# Altium schematic symbol library Global Library.SchLib: 120 symbols (part 1 of 2)
Pins are listed as number, name and electrical type; pins without a type are passive.

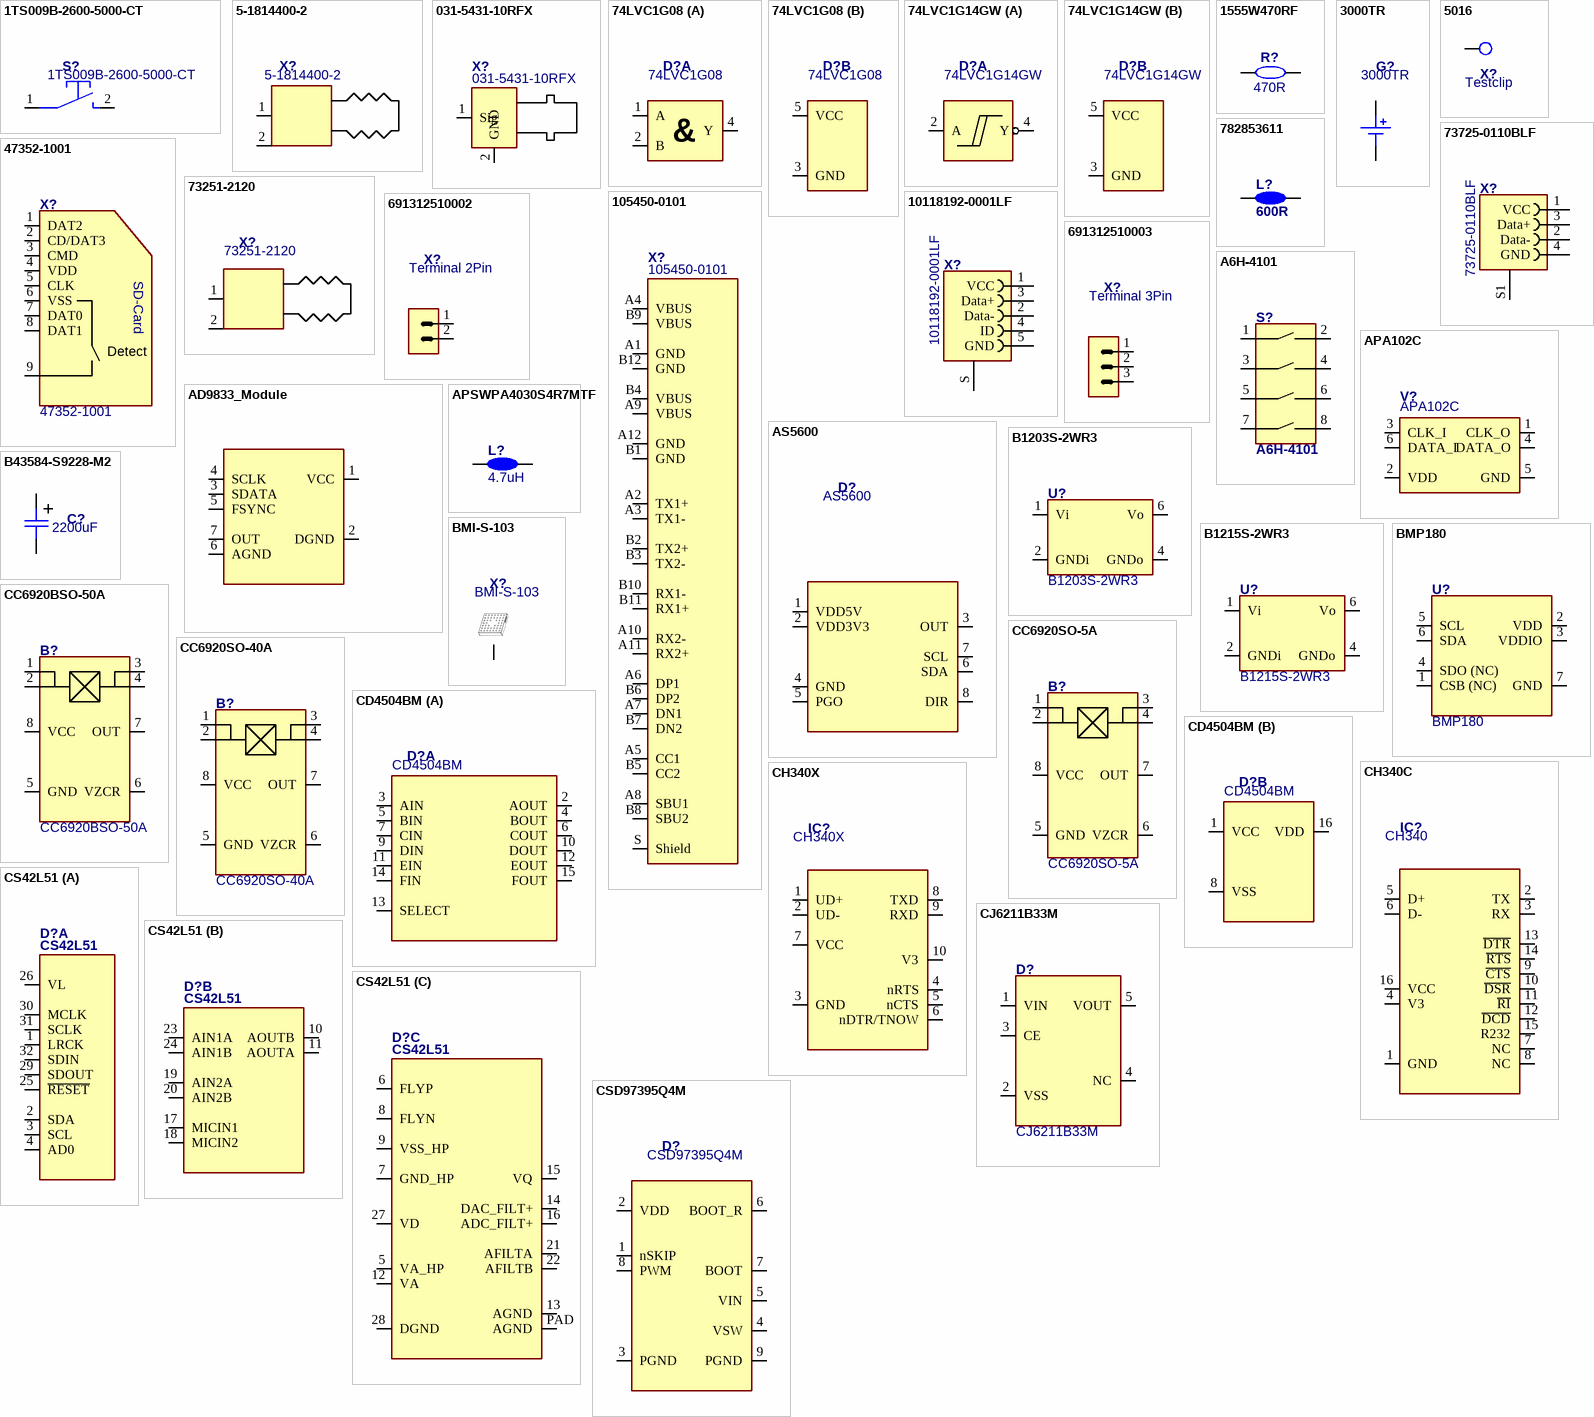
[diagram p0: symbols 1TS009B-2600-5000-CT to CSD97395Q4M]

## 1TS009B-2600-5000-CT
designator S?
Button Tactile 6x6mm C255817; Part_validated: No; Manufacturer: HYP; GPV_Number: xxxx.xxxx; MNL_Number: xxxxxxxx; Value: 1TS009B-2600-5000-CT; Footprint_validated: No; PartStatus: New; System: -; ClassName: Surface_Assy; Case/Package: 6x6; Technology: SMT; Manufacturer Part Number: 1TS009B-2600-5000-CT
footprint 1TS009B-2600-5000-CT (Button Tactile 6x6)
pins: 1, 2

## 5-1814400-2
designator X?
CONN RF SMA; Part_validated: No; Manufacturer: TE Connectivity; GPV_Number: xxxx.xxxx; System: Connector; MNL_Number: xxxxxxxx; Value: 5-1814400-2; Footprint_validated: No; PartStatus: New; ClassName: Through-Hole_Assy; Case/Package: SMA; Technology: THT; Manufacturer Part Number: 5-1814400-2
footprint 5-1814400-2 (SMA Connector)
pins: 1, 2

## 031-5431-10RFX
designator X?
CONN BNC RF 50Ohm; Part_validated: No; Manufacturer: Amphenol; GPV_Number: xxxx.xxxx; System: Connector; MNL_Number: xxxxxxxx; Value: 031-5431-10RFX; Footprint_validated: No; PartStatus: New; ClassName: Through-Hole_Assy; Case/Package: BNC; Technology: THT; Manufacturer Part Number: 031-5431-10RFX
footprint 031-5431-10RFX (CONN BNC)
pins: 1 Sig, 2 GND

## 74LVC1G08
designator D?
Logic AND Gate; Part_validated: No; GPV_Number: xxxx.xxxx; MNL_Number: xxxxxxxx; Value: 74LVC1G08; Footprint_validated: No; PartStatus: New; System: -; ClassName: Surface_Assy; Case/Package: SOT323; Technology: SMT; Manufacturer: *; Manufacturer Part Number: 74LVC1G08
footprint SOT23-5_N_RF (SOT23, 5-Leads, Body 2.90x2.70mm, Pitch 0.95mm, IPC Medium Density)
part A pins: 1 A, 2 B, 4 Y
part B pins: 3 GND, 5 VCC
part A text: &

## 74LVC1G14GW
designator D?
IC LOGIC Inverting Schmitt Trigger 1.65V-5.5V; Part_validated: No; Manufacturer: Nexperia; GPV_Number: xxxx.xxxx; MNL_Number: xxxxxxxx; Value: 74LVC1G14GW; Footprint_validated: No; PartStatus: New; System: -; ClassName: Surface_Assy; Case/Package: SOT353-5; Technology: SMT; Manufacturer Part Number: 74LVC1G14GW
footprint SOT323-5_N_RF (SOT323, 5-Leads, Body 2.05x2.13mm, Pitch 0.65mm, IPC Medium Density)
part A pins: 2 A, 4 Y
part B pins: 3 GND, 5 VCC

## 1555W470RF
designator R?, comment 470R
RES 470R 5W 1% ±300ppm/°C Axial; Part_validated: No; Manufacturer: RND; Manufacturer Part Number: 1555W470RF; GPV_Number: xxxx.xxxx; MNL_Number: xxxxxxxx; Value: 470R; Footprint_validated: No; PartStatus: New; System: -; ClassName: Surface_Assy; Case/Package: Axial; Technology: SMT; Supplier 1: Distrelec; Supplier Part Number 1: 30165929
footprint 1555W470RF
pins: 1, 2

## 3000TR
designator G?
CONN Battery Holder Lithium 1216, 1220, 1225; Part_validated: No; Manufacturer: Keystone Electronics; Value: 3000TR; Footprint_validated: No; PartStatus: New; System: -; ClassName: Surface_Assy; Case/Package: Battery Clip; Technology: SMT; Manufacturer Part Number: 3000TR; Supplier 1: Digi-Key; Supplier Part Number 1: 36-3000CT-ND
footprint X_BAT_1216,1220,1225_N_RF (Battery Holder 1216, 1220, 1225)
pins: 1 (power), 2 (power)

## 5016
designator X?, comment Testclip
CONN Clip Testpoint Hook; Part_validated: No; Manufacturer: Keystone; Manufacturer Part Number: 5016; GPV_Number: xxxx.xxxx; System: Connector; MNL_Number: xxxxxxxx; Value: Testclip; Footprint_validated: No; PartStatus: New; ClassName: Testpoint; Case/Package: 5016; Technology: SMT
footprint 5016_Keystone (Probe Clip)
pins: 1

## 47352-1001
designator X?
uSD Holder Push-Push Molex 47352-1001; Part_validated: No; GPV_Number: xxxx.xxxx; System: Connector; MNL_Number: xxxxxxxx; Value: 47352-1001; Footprint_validated: No; PartStatus: New; ClassName: Surface_Assy; Case/Package: 0201 | 0402 | 0603 | 0805 | 1206 | SO8 | SO16 |; Technology: STM; Manufacturer: 47352-1001; Manufacturer Part Number: Molex
footprint X_0140X0142_47352-1001 (uSD Card Slot Molex)
pins: 1 DAT2, 2 CD/DAT3, 3 CMD, 4 VDD, 5 CLK, 6 VSS, 7 DAT0, 8 DAT1, 9
text: SD-Card; Detect

## 73251-2120
designator X?
CONN RF SMA; Part_validated: No; Manufacturer: MOLEX; GPV_Number: xxxx.xxxx; System: Connector; MNL_Number: xxxxxxxx; Value: 73251-2120; Footprint_validated: No; PartStatus: New; ClassName: Through-Hole_Assy; Case/Package: SMA; Technology: THT; Manufacturer Part Number: 73251-2120
footprint 73251-2120 (SMA Connector)
pins: 1, 2

## 73725-0110BLF
designator X?
CONN RCPT USB2.0 TYPEA 4POS R/A; Part_validated: Yes; Manufacturer: Amphenol FCI; GPV_Number: xxxx.xxxx; System: Connector; MNL_Number: xxxxxxxx; Value: 73725-0110BLF; Footprint_validated: Yes; PartStatus: New; ClassName: Through-Hole_Assy; Case/Package: -; Technology: SMT; Supplier 1: Digi-Key; Supplier Part Number 1: 609-1041-ND; Manufacturer Part Number: 73725-0110BLF; ComponentLink1URL: https://datasheet.ciiva.com/1099/73725-1099184.pdf?src-supplier=Element14; ComponentLink1Description: https://datasheet.ciiva.com/1099/73725-1099184.pdf?src-supplier=Element14; ComponentLink2URL: https://datasheet.ciiva.com/4598/73725-222585-4598842.pdf?src-supplier=Mouser; ComponentLink2Description: https://datasheet.ciiva.com/4598/73725-222585-4598842.pdf?src-supplier=Mouser; ComponentLink3URL: https://datasheet.ciiva.com/1099/73725-1099185.pdf?src-supplier=Element14; ComponentLink3Description: https://datasheet.ciiva.com/1099/73725-1099185.pdf?src-supplier=Element14; ComponentLink4URL: https://datasheet.ciiva.com/3094/73725-3094435.pdf?src-supplier=Avnet; ComponentLink4Description: https://datasheet.ciiva.com/3094/73725-3094435.pdf?src-supplier=Avnet; ComponentLink5URL: https://datasheet.ciiva.com/851/73725-851209.pdf?src-supplier=Digi-Key; ComponentLink5Description: https://datasheet.ciiva.com/851/73725-851209.pdf?src-supplier=Digi-Key
footprint X-0197x0051_A_F04_P0200_FCI_USB-A_73725-0110BLF - duplicate (TE-USB-A, Female. 180°_0-5787834-2)
pins: 1 VCC, 2 Data-, 3 Data+, 4 GND, S1 S

## 105450-0101
designator X?
CONN USB-C 16pin; Part_validated: No; Manufacturer: Molex; GPV_Number: xxxx.xxxx; System: Connector; MNL_Number: xxxxxxxx; Value: 105450-0101; Footprint_validated: No; PartStatus: New; ClassName: Through-Hole_Assy; Case/Package: USB-C; Technology: SMT; Manufacturer Part Number: 105450-0101
footprint 105450-0101 (USB-C Connector)
pins: A1 GND, A2 TX1+, A3 TX1-, A4 VBUS, A5 CC1, A6 DP1, A7 DN1, A8 SBU1, A9 VBUS, A10 RX2-, A11 RX2+, A12 GND, B1 GND, B2 TX2+, B3 TX2-, B4 VBUS, B5 CC2, B6 DP2, B7 DN2, B8 SBU2, B9 VBUS, B10 RX1-, B11 RX1+, B12 GND, S Shield

## 10118192-0001LF
designator X?
CONN RCPT USB2.0 Type MicroB 5Pos Flat; Part_validated: No; Manufacturer: Amphenol; System: Connector; GPV_Number: *; Value: 10118192-0001LF; Footprint_validated: No; PartStatus: New; ClassName: Surface_Assy; Case/Package: USB-microB; Technology: SMT; Manufacturer Part Number: 10118192-0001LF; Supplier 1: Digi-Key; Supplier Part Number 1: 609-4613-2-ND
footprint X-0079X0055_A_M5_Amphenol_10118192-0001LF
pins: 1 VCC, 2 Data-, 3 Data+, 4 ID, 5 GND, S

## 782853611
designator L?, comment 600R
Ferrite Bead 600Ohm 2A 0805; Part_validated: Yes | No; Manufacturer: Würth; Manufacturer Part Number: 782853611; GPV_Number: xxxx.xxxx; System: Connector; MNL_Number: xxxxxxxx; Footprint_validated: Yes | No; PartStatus: New | Draft | Release; ClassName: Surface_Assy | Testpoint | Through-Hole_Assy | NetTie | Symbol | Mechanical; Case/Package: 0201 | 0402 | 0603 | 0805 | 1206 | SO8 | SO16 |; Technology: SMT | THT | SMT-BTC; Value: 600R
footprint L_0805_N_RF
pins: 1, 2

## 691312510002
designator X?, comment Terminal 2Pin
CONN Terminal Block 5.08mm 2Pin; Part_validated: No; Manufacturer: Würth; Manufacturer Part Number: 691312510002; GPV_Number: xxxx.xxxx; System: Connector; MNL_Number: xxxxxxxx; Value: Terminal 2Pin; Footprint_validated: No; PartStatus: New; ClassName: Through-Hole_Assy; Case/Package: 5.08; Technology: THT
footprint Terminal Block 2Pin
pins: 1, 2 1

## 691312510003
designator X?, comment Terminal 3Pin
CONN Terminal Block 5.08mm 3Pin; Part_validated: No; Manufacturer: Würth; Manufacturer Part Number: 691312510003; GPV_Number: xxxx.xxxx; System: Connector; MNL_Number: xxxxxxxx; Value: Terminal 3Pin; Footprint_validated: No; PartStatus: New; ClassName: Through-Hole_Assy; Case/Package: 5.08; Technology: THT
footprint Terminal Block 3Pin
pins: 1, 2, 3

## A6H-4101
designator S?
DIP Switch; Part_validated: False; GPV_Number: xxxx.xxxx; MNL_Number: xxxxxxxx; Value: A6H-4101; Footprint_validated: False; PartStatus: New; System: -; ClassName: Surface_Assy; Supplier 1: *; Supplier Part Number 1: *; Manufacturer: *; Manufacturer Part Number: *
footprint DIP-Switch 4P (DIP Switch)
pins: 1, 2, 3, 4, 5, 6, 7, 8

## AD9833_Module
designator IC?
Module DDS Signal Generator, 0.1Hz - 1MHz; Part_validated: Yes | No; GPV_Number: xxxx.xxxx; System: Connector; MNL_Number: xxxxxxxx; Value: AD9833_Module; Footprint_validated: Yes | No; PartStatus: New | Draft | Release; ClassName: Surface_Assy | Testpoint | Through-Hole_Assy | NetTie | Symbol | Mechanical; Case/Package: 0201 | 0402 | 0603 | 0805 | 1206 | SO8 | SO16 |; Technology: SMT | THT | SMT-BTC; Manufacturer: *; Manufacturer Part Number: *
footprint AD9833_Module
pins: 1 VCC, 2 DGND, 3 SDATA, 4 SCLK, 5 FSYNC, 6 AGND, 7 OUT

## APA102C
designator V?
RGB LED SPI Interface; Part_validated: No; Manufacturer: APA Electronic CO; Manufacturer Part Number: APA-102-2020-256-8A; GPV_Number: xxxx.xxxx; MNL_Number: xxxxxxxx; Value: APA102C; Footprint_validated: No; PartStatus: New; System: -; ClassName: Surface_Assy; Case/Package: 2020; Technology: SMT
footprint V_2020_P6_N_RF (APA102C LED)
pins: 1 CLK_O, 2 VDD, 3 CLK_I, 4 DATA_O, 5 GND, 6 DATA_I

## APSWPA4030S4R7MTF
designator L?, comment 4.7uH
IND 4.7uH 2.9A 4x4mm; Part_validated: No; Manufacturer: APV; Manufacturer Part Number: APSWPA4030S4R7MTF; GPV_Number: xxxx.xxxx; MNL_Number: xxxxxxxx; Value: 4.7uH; Footprint_validated: No; PartStatus: New; System: -; ClassName: Surface_Assy; Case/Package: 4x4; Technology: SMT
footprint L-0400X0400_N_RF (Chip Inductor, 2-Leads, Body 4.00x4.00mm, IPC Medium Density)
pins: 1, 2

## AS5600
designator D?
IC Sensor Rotation Magnet 12bit; Part_validated: No; Manufacturer: AMS; GPV_Number: xxxx.xxxx; MNL_Number: xxxxxxxx; Value: AS5600; Footprint_validated: No; PartStatus: New; System: -; ClassName: Surface_Assy; Case/Package: SO-8; Technology: SMT; Manufacturer Part Number: AS5600
footprint SOIC8_N_RF (SOIC, 8-Leads, Body 4.90x3.90mm, Pitch 1.27mm, IPC Medium Density)
pins: 1 VDD5V, 2 VDD3V3, 3 OUT, 4 GND, 5 PGO, 6 SDA, 7 SCL, 8 DIR

## B1203S-2WR3
designator U?
IC DC/DC Converter 12VIN 3.3VOUT 2W; Part_validated: No; Manufacturer: Hi-Link; MNL_Number: xxxxxxxx; GPV_Number: -; Value: B1203S-2WR3; Footprint_validated: No; PartStatus: New; System: -; ClassName: Through-Hole_Assy; Case/Package: 7-SIP; Technology: THT; Manufacturer Part Number: B1203S-2WR3; Supplier 1: Farnell; Supplier Part Number 1: 1860943
footprint SIP7 wide (7 PIN SIP Package)
pins: 1 Vi, 2 GNDi, 4 GNDo, 6 Vo

## B1215S-2WR3
designator U?
IC DC/DC Converter 12VIN 15VOUT 2W; Part_validated: No; Manufacturer: Hi-Link; MNL_Number: xxxxxxxx; GPV_Number: -; Value: B1215S-2WR3; Footprint_validated: No; PartStatus: New; System: -; ClassName: Through-Hole_Assy; Case/Package: 7-SIP; Technology: THT; Manufacturer Part Number: B1215S-2WR3; Supplier 1: Farnell; Supplier Part Number 1: 1860943
footprint SIP7 (7 PIN SIP Package)
pins: 1 Vi, 2 GNDi, 4 GNDo, 6 Vo

## B43584-S9228-M2
designator C?, comment 2200uF
CAP Alu 400V 2200uF; Part_validated: No; Manufacturer: Epcos; Manufacturer Part Number: B43584-S9228-M2; GPV_Number: xxxx.xxxx; MNL_Number: xxxxxxxx; Value: 2200uF; Footprint_validated: No; PartStatus: New; System: -; ClassName: Through-Hole_Assy; Case/Package: screw terminal; Technology: THT
footprint B43584-S9228-M2 (CAP Alu 400V 2200uF)
pins: 1, 2

## BMI-S-103
designator X?
EMI Shield 26.2mm x 26.2mm, soldered; Part_validated: Yes | No; Manufacturer: Laird; GPV_Number: xxxx.xxxx; System: Connector; MNL_Number: xxxxxxxx; Value: BMI-S-103; Footprint_validated: Yes | No; PartStatus: New | Draft | Release; ClassName: Surface_Assy | Testpoint | Through-Hole_Assy | NetTie | Symbol | Mechanical; Case/Package: 0201 | 0402 | 0603 | 0805 | 1206 | SO8 | SO16 |; Technology: SMT | THT | SMT-BTC; Manufacturer Part Number: BMI-S-103
footprint BMI-S-103 (EMI Shield)
pins: S

## BMP180
designator U?
IC SENSOR Pressure & Temperature; Part_validated: No; Manufacturer: Bosch; GPV_Number: xxxx.xxxx; MNL_Number: xxxxxxxx; Value: BMP180; Footprint_validated: No; PartStatus: New; System: -; ClassName: Surface_Assy; Case/Package: LGA-7; Technology: SMT; Manufacturer Part Number: BMP180
footprint LGA-7
pins: 1 CSB (NC), 2 VDD, 3 VDDIO, 4 SDO (NC), 5 SCL, 6 SDA, 7 GND

## CC6920BSO-50A
designator B?
IC Current sensor ±50A 3.3V; Part_validated: No; Manufacturer: Cross chip; GPV_Number: xxxx.xxxx; MNL_Number: xxxxxxxx; Value: CC6920BSO-50A; Footprint_validated: No; PartStatus: New; System: -; ClassName: Surface_Assy; Case/Package: SO8; Technology: SMT; Manufacturer Part Number: CC6920BSO-50A
footprint SOIC8_N_RF (SOIC, 8-Leads, Body 4.90x3.90mm, Pitch 1.27mm, IPC Medium Density)
pins: 1 IP+, 2 IP+, 3 IP-, 4 IP-, 5 GND, 6 VZCR, 7 OUT, 8 VCC

## CC6920SO-5A
designator B?
IC Current sensor ±5A 5V; Part_validated: No; Manufacturer: Cross chip; GPV_Number: xxxx.xxxx; MNL_Number: xxxxxxxx; Value: CC6920SO-5A; Footprint_validated: No; PartStatus: New; System: -; ClassName: Surface_Assy; Case/Package: SO8; Technology: SMT; Manufacturer Part Number: CC6920SO-5A
footprint SOIC8_N_RF (SOIC, 8-Leads, Body 4.90x3.90mm, Pitch 1.27mm, IPC Medium Density)
pins: 1 IP+, 2 IP+, 3 IP-, 4 IP-, 5 GND, 6 VZCR, 7 OUT, 8 VCC

## CC6920SO-40A
designator B?
IC Current sensor ±40A 5V; Part_validated: No; Manufacturer: Cross chip; GPV_Number: xxxx.xxxx; MNL_Number: xxxxxxxx; Value: CC6920SO-40A; Footprint_validated: No; PartStatus: New; System: -; ClassName: Surface_Assy; Case/Package: SO8; Technology: SMT; Manufacturer Part Number: CC6920SO-40A
footprint SOIC8_N_RF (SOIC, 8-Leads, Body 4.90x3.90mm, Pitch 1.27mm, IPC Medium Density)
pins: 1 IP+, 2 IP+, 3 IP-, 4 IP-, 5 GND, 6 VZCR, 7 OUT, 8 VCC

## CD4504BM
designator D?
IC LOGIC LEVEL SHIFTER 6CH; Part_validated: Yes | No; Manufacturer: TI; GPV_Number: xxxx.xxxx; System: Connector; MNL_Number: xxxxxxxx; Value: CD4504BM; Footprint_validated: Yes | No; PartStatus: New | Draft | Release; ClassName: Surface_Assy | Testpoint | Through-Hole_Assy | NetTie | Symbol | Mechanical; Case/Package: 0201 | 0402 | 0603 | 0805 | 1206 | SO8 | SO16 |; Technology: SMT | THT | SMT-BTC; Manufacturer Part Number: CD4504BM
footprint SO16-600X175_N_RF (SOIC, 16-Leads, Body 9.90x3.90mm, Pitch 1.27mm, IPC Medium Density)
part A pins: 2 AOUT, 3 AIN, 4 BOUT, 5 BIN, 6 COUT, 7 CIN, 9 DIN, 10 DOUT, 11 EIN, 12 EOUT, 13 SELECT, 14 FIN, 15 FOUT
part B pins: 1 VCC, 8 VSS, 16 VDD

## CH340C
designator IC?, comment CH340
IC Converter USB UART; Part_validated: No; Manufacturer: WCN; Manufacturer Part Number: CH340C; GPV_Number: xxxx.xxxx; MNL_Number: xxxxxxxx; Value: CH340; Footprint_validated: No; PartStatus: New; System: -; ClassName: Surface_Assy; Case/Package: SO16; Technology: SMT
footprint SOIC16_N_RF (SOIC, 16-Leads, Body 9.90x3.90mm, Pitch 1.27mm, IPC Medium Density)
pins: 1 GND, 2 TX, 3 RX, 4 V3, 5 D+, 6 D-, 7 NC, 8 NC, 9 ~{CTS}, 10 ~{DSR}, 11 ~{RI}, 12 ~{DCD}, 13 ~{DTR}, 14 ~{RTS}, 15 R232, 16 VCC

## CH340X
designator IC?
IC Converter USB UART; Part_validated: No; Manufacturer: WCN; GPV_Number: xxxx.xxxx; MNL_Number: xxxxxxxx; Value: CH340X; Footprint_validated: No; PartStatus: New; System: -; ClassName: Surface_Assy; Case/Package: MSOP-10; Technology: SMT; Manufacturer Part Number: CH340X
footprint MSOP-10_N_RF (TSSOP, 10-Leads, Body 3.00x3.00mm, Pitch 0.50mm, IPC Medium Density)
pins: 1 UD+, 2 UD-, 3 GND, 4 nRTS, 5 nCTS, 6 nDTR/TNOW, 7 VCC, 8 TXD, 9 RXD, 10 V3

## CJ6211B33M
designator D?
IC REG LDO 3.3V 500mA 55mV@100mA SOT-23-5; Part_validated: No; Manufacturer: Jiangsu Changjing Electronics; GPV_Number: xxxx.xxxx; MNL_Number: xxxxxxxx; Value: CJ6211B33M; Footprint_validated: No; PartStatus: New; System: -; ClassName: Surface_Assy; Case/Package: SOT-23-5; Technology: SMT; Manufacturer Part Number: CJ6211B33M
footprint SOT23-5_N_RF (SOT23, 5-Leads, Body 2.90x2.70mm, Pitch 0.95mm, IPC Medium Density)
pins: 1 VIN, 2 VSS, 3 CE, 4 NC, 5 VOUT

## CS42L51
designator D?
Audio Codec; Part_validated: Yes | No; GPV_Number: xxxx.xxxx; System: Connector; MNL_Number: xxxxxxxx; Value: CS42L51; Footprint_validated: Yes | No; PartStatus: New | Draft | Release; ClassName: Surface_Assy | Testpoint | Through-Hole_Assy | NetTie | Symbol | Mechanical; Case/Package: 0201 | 0402 | 0603 | 0805 | 1206 | SO8 | SO16 |; Technology: SMT | THT | SMT-BTC; Manufacturer: *; Manufacturer Part Number: *
footprint QFN32-N_RF (QFN, 32-Leads, Body 5.00x5.00mm, Pitch 0.50mm, Thermal Pad 3.65x3.65mm, IPC Medium Density)
part A pins: 1 LRCK, 2 SDA, 3 SCL, 4 AD0, 25 ~{RESET}, 26 VL, 29 SDOUT, 30 MCLK, 31 SCLK, 32 SDIN
part B pins: 10 AOUTB, 11 AOUTA, 17 MICIN1, 18 MICIN2, 19 AIN2A, 20 AIN2B, 23 AIN1A, 24 AIN1B
part C pins: 5 VA_HP, 6 FLYP, 7 GND_HP, 8 FLYN, 9 VSS_HP, 12 VA, 13 AGND, 14 DAC_FILT+, 15 VQ, 16 ADC_FILT+, 21 AFILTA, 22 AFILTB, 27 VD, 28 DGND, PAD AGND

## CSD97395Q4M
designator D?
IC DRIVER H-Bridge 25A; Part_validated: No; Manufacturer: TI; GPV_Number: xxxx.xxxx; MNL_Number: xxxxxxxx; Value: CSD97395Q4M; Footprint_validated: No; PartStatus: New; System: -; ClassName: Surface_Assy; Case/Package: SON-16; Technology: SMT; Manufacturer Part Number: CSD97395Q4M
footprint CSD97395Q4M
pins: 1 nSKIP, 2 VDD, 3 PGND, 4 VSW, 5 VIN, 6 BOOT_R, 7 BOOT, 8 PWM, 9 PGND

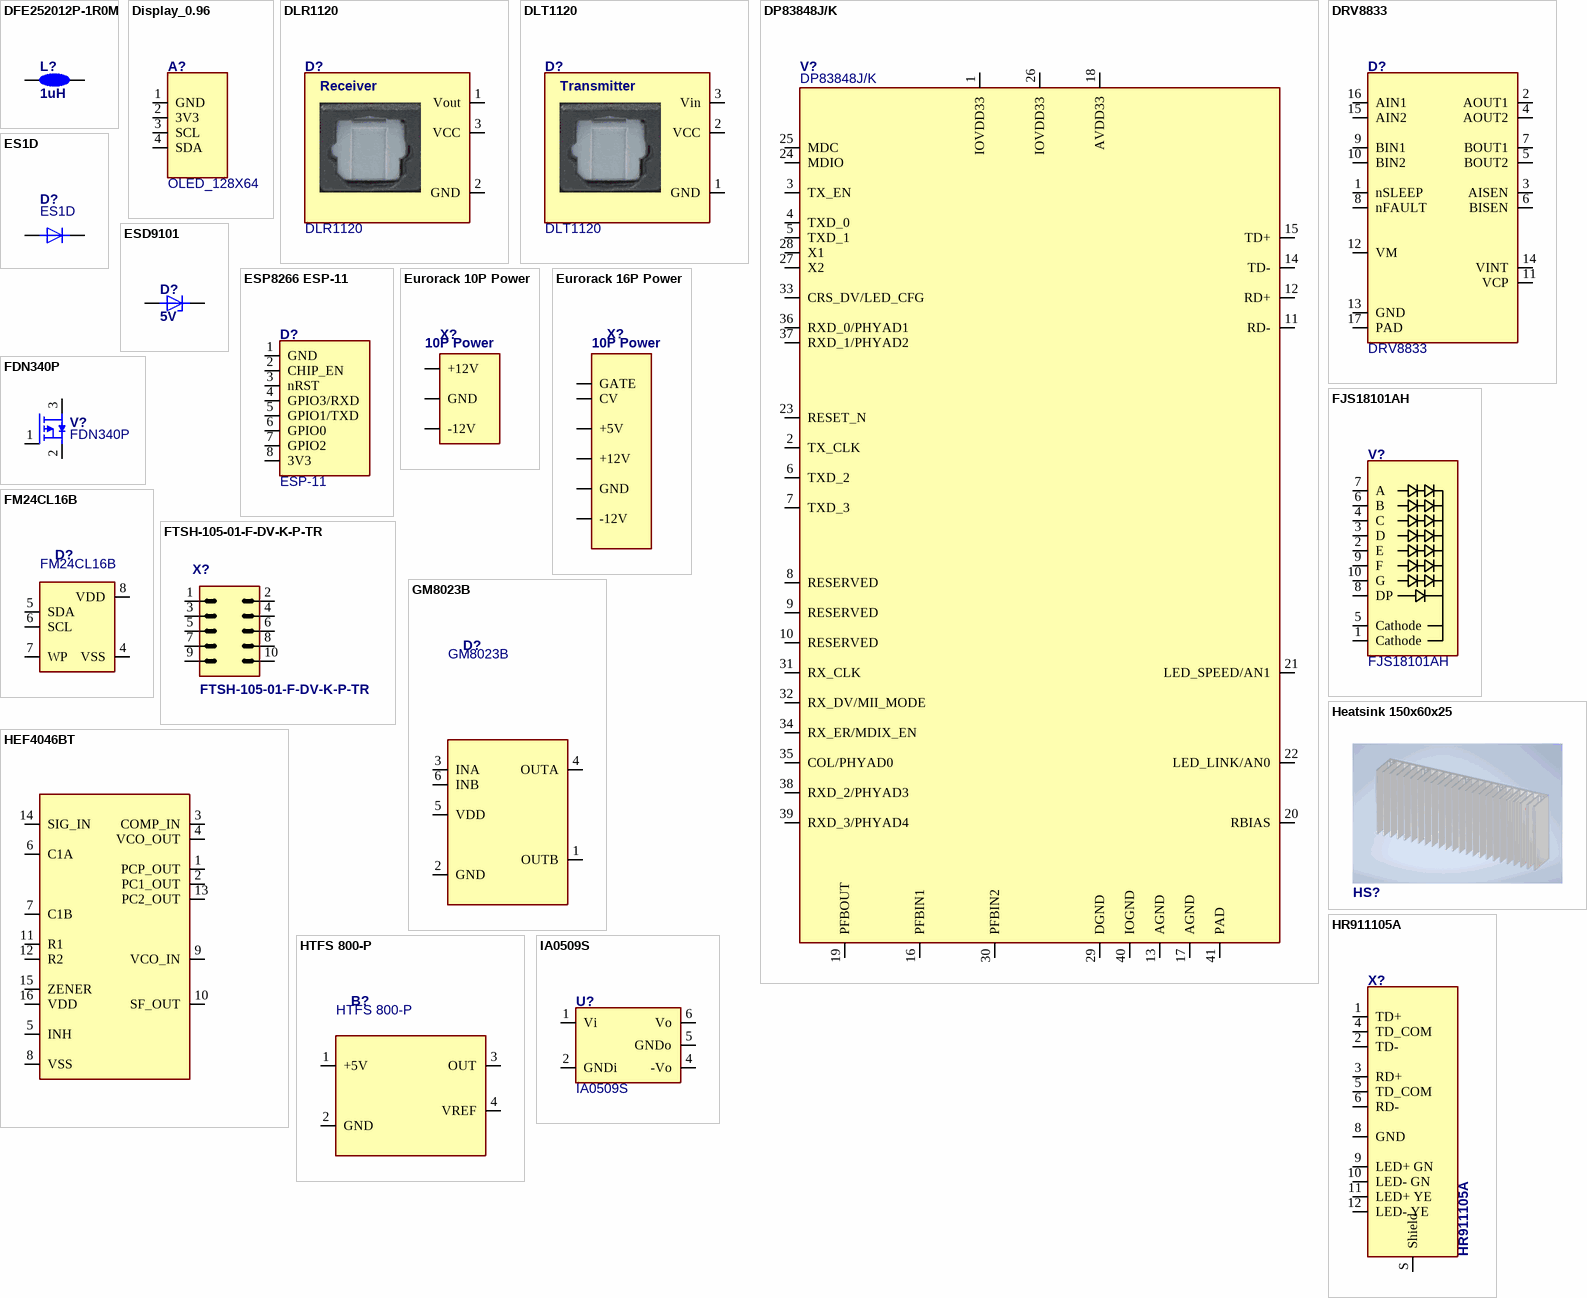
[diagram p1: symbols DFE252012P-1R0M to IA0509S]

## DFE252012P-1R0M
designator L?, comment 1uH
Inductor 1uH 3.2A 20% 0.042Ohm; Part_validated: Yes | No; Manufacturer: Murata; Manufacturer Part Number: DFE252012P-1R0M; GPV_Number: xxxx.xxxx; MNL_Number: xxxxxxxx; Value: 1uH; Footprint_validated: Yes | No; PartStatus: New | Draft | Release; System: -; ClassName: Surface_Assy | Testpoint | Through-Hole_Assy | NetTie | Symbol | Mechanical; Case/Package: 0201 | 0402 | 0603 | 0805 | 1206 | SO8 | SO16 |; Technology: SMT | THT | SMT-BTC
footprint L-0200X0250_N_RF (Chip Inductor, 2-Leads, Body 2.50x2.00mm, IPC Medium Density)
pins: 1, 2

## Display_0.96
designator A?, comment OLED_128X64
OLED Display I2C 128X64 0.96"; Part_validated: No; GPV_Number: xxxx.xxxx; MNL_Number: xxxxxxxx; Value: OLED_128X64; Footprint_validated: No; PartStatus: New; System: -; ClassName: Through-Hole_Assy; Case/Package: 4SIL; Technology: TMT; Manufacturer: *; Manufacturer Part Number: *
footprint OLED_0.96
pins: 1 GND, 2 3V3, 3 SCL, 4 SDA

## DLR1120
designator D?
Optic Receiver Toslink; Part_validated: No; GPV_Number: xxxx.xxxx; MNL_Number: xxxxxxxx; Value: DLR1120; Footprint_validated: No; PartStatus: New; System: -; ClassName: Through-Hole_Assy; Case/Package: -; Technology: SMT; Manufacturer: *; Manufacturer Part Number: DLR1120
footprint DLR1120/DLT1120 (Toslink Receiver/Transmitter)
pins: 1 Vout, 2 GND, 3 VCC
text: Receiver

## DLT1120
designator D?
Optic Transmitter Toslink; Part_validated: No; GPV_Number: xxxx.xxxx; MNL_Number: xxxxxxxx; Value: DLT1120; Footprint_validated: No; PartStatus: New; System: -; ClassName: Through-Hole_Assy; Case/Package: -; Technology: SMT; Manufacturer: *; Manufacturer Part Number: DLT1120
footprint DLR1120/DLT1120 (Toslink Receiver/Transmitter)
pins: 1 GND, 2 VCC, 3 Vin
text: Transmitter

## DP83848J/K
designator V?
IC PHY Eth RMII, 3.3V, 10/100MB/s, >=70˚C; Part_validated: No; Manufacturer: Texas Instruments; Manufacturer Part Number: DP83848JSQ/NOPB; DP83848KSQ/NOPB; GPV_Number: 1501.0140; MNL_Number: xxxxxxxx; Value: DP83848J/K; Footprint_validated: No; PartStatus: New; System: -; ClassName: Surface_Assy; Case/Package: WQFN-40; Technology: SMT; Parameter 1: *; Supplier 1: Mouser; Supplier Part Number 1: 926-DP83848JSQ/NOPB
footprint WQFN40_L_RF (QFN, 40-Leads, Body 6.00x6.00mm, Pitch 0.50mm, Thermal Pad 4.60x4.60mm, IPC High Density)
footprint WQFN40_N_RF (QFN, 40-Leads, Body 6.00x6.00mm, Pitch 0.50mm, Thermal Pad 4.60x4.60mm, IPC Medium Density)
pins: 1 IOVDD33, 2 TX_CLK, 3 TX_EN, 4 TXD_0, 5 TXD_1, 6 TXD_2, 7 TXD_3, 8 RESERVED, 9 RESERVED, 10 RESERVED, 11 RD-, 12 RD+, 13 AGND, 14 TD-, 15 TD+, 16 PFBIN1, 17 AGND, 18 AVDD33, 19 PFBOUT, 20 RBIAS, 21 LED_SPEED/AN1, 22 LED_LINK/AN0, 23 RESET_N, 24 MDIO, 25 MDC, 26 IOVDD33, 27 X2, 28 X1, 29 DGND, 30 PFBIN2, 31 RX_CLK, 32 RX_DV/MII_MODE, 33 CRS_DV/LED_CFG, 34 RX_ER/MDIX_EN, 35 COL/PHYAD0, 36 RXD_0/PHYAD1, 37 RXD_1/PHYAD2, 38 RXD_2/PHYAD3, 39 RXD_3/PHYAD4, 40 IOGND, 41 PAD

## DRV8833
designator D?
IC Driver Dual H-Bridge 1.5A 2.7-10.8V; Part_validated: No; Manufacturer: Texas Instruments; Manufacturer Part Number: DRV8833P; GPV_Number: xxxx.xxxx; MNL_Number: xxxxxxxx; Value: DRV8833; Footprint_validated: No; PartStatus: New; System: -; ClassName: Surface_Assy; Case/Package: TSSOP16; Technology: SMT
footprint TSSOP16-Power_N_RF (TSSOP, 16-Leads, Body 5.00x4.40mm, Pitch 0.65mm, Thermal Pad 2.31x2.46mm, IPC Medium Density)
pins: 1 nSLEEP, 2 AOUT1, 3 AISEN, 4 AOUT2, 5 BOUT2, 6 BISEN, 7 BOUT1, 8 nFAULT, 9 BIN1, 10 BIN2, 11 VCP, 12 VM, 13 GND, 14 VINT, 15 AIN2, 16 AIN1, 17 PAD

## ES1D
designator D?
DIODE Ultrafast 1A; Part_validated: No; Manufacturer: ON Semiconductor; GPV_Number: xxxx.xxxx; MNL_Number: xxxxxxxx; Value: ES1D; Footprint_validated: No; PartStatus: New; System: -; ClassName: Surface_Assy; Case/Package: SMA; Technology: SMT; Manufacturer Part Number: ES1D
footprint sma (Diode Package)
pins: 1, 2

## ESD9101
designator D?, comment 5V
Diode ESD 5V; Part_validated: Yes | No; Manufacturer: Onsemi; Manufacturer Part Number: ESD9101P2T5G; GPV_Number: xxxx.xxxx; MNL_Number: xxxxxxxx; Value: 5V; Footprint_validated: Yes | No; PartStatus: New | Draft | Release; System: -; ClassName: Surface_Assy | Testpoint | Through-Hole_Assy | NetTie | Symbol | Mechanical; Case/Package: 0201 | 0402 | 0603 | 0805 | 1206 | SO8 | SO16 |; Technology: SMT | THT | SMT-BTC
footprint SOD-923_N_RF (SODFL, 2-Leads, Body 0.60x1.00mm, IPC Medium Density)
pins: 1, 2

## ESP8266 ESP-11
designator D?, comment ESP-11
ESP8266 Module; Part_validated: No; Manufacturer: Espressif; GPV_Number: xxxx.xxxx; MNL_Number: xxxxxxxx; Value: ESP-11; Footprint_validated: No; PartStatus: New; System: -; ClassName: Surface_Assy; Case/Package: 0201 | 0402 | 0603 | 0805 | 1206 | SO8 | SO16 |; Technology: SMT; Manufacturer Part Number: ESP-11
footprint ESP-11
pins: 1 GND, 2 CHIP_EN, 3 nRST, 4 GPIO3/RXD, 5 GPIO1/TXD, 6 GPIO0, 7 GPIO2, 8 3V3

## Eurorack 10P Power
designator X?, comment 10P Power
Eurorack Power Connector 10P; Part_validated: No; GPV_Number: xxxx.xxxx; MNL_Number: xxxxxxxx; Value: 10P Power; Footprint_validated: No; PartStatus: New; System: Connector; ClassName: Through-Hole_Assy; Case/Package: 0201 | 0402 | 0603 | 0805 | 1206 | SO8 | SO16 |; Technology: THT; Manufacturer: *; Manufacturer Part Number: *
footprint Eurorack 10P Power
pins: 1 -12V, 2 GND, 3 +12V

## Eurorack 16P Power
designator X?, comment 10P Power
Eurorack Power Connector 16P; Part_validated: Yes | No; GPV_Number: xxxx.xxxx; MNL_Number: xxxxxxxx; Value: 10P Power; Footprint_validated: Yes | No; PartStatus: New | Draft | Release; System: Connector; ClassName: Surface_Assy | Testpoint | Through-Hole_Assy | NetTie | Symbol | Mechanical; Case/Package: 0201 | 0402 | 0603 | 0805 | 1206 | SO8 | SO16 |; Technology: SMT | THT | SMT-BTC; Manufacturer: *; Manufacturer Part Number: *
footprint Eurorack 16P Power
pins: 1 -12V, 2 GND, 3 +12V, 4 +5V, 5 CV, 6 GATE

## FDN340P
designator V?
MOSFET PCH -2A 20V; Part_validated: No; Manufacturer: onsemi; GPV_Number: xxxx.xxxx; MNL_Number: xxxxxxxx; Value: FDN340P; Footprint_validated: No; PartStatus: New; System: -; ClassName: Surface_Assy; Case/Package: SOT-23; Technology: SMT; Manufacturer Part Number: FDN340P
footprint SOT23_N_RF (SOT23, 3-Leads, Body 2.9x1.3mm, Pitch 0.95mm, Lead Span 2.4mm, IPC Medium Density)
pins: 1 G, 2 S, 3 D

## FJS18101AH
designator V?
LED 7-Segment 38mm x 45mm; Part_validated: No; GPV_Number: xxxx.xxxx; MNL_Number: xxxxxxxx; Value: FJS18101AH; Footprint_validated: No; PartStatus: New; System: -; ClassName: Surface_Assy; Case/Package: 7seg; Technology: SMT; Manufacturer: ?; Manufacturer Part Number: FJS18101AH
footprint FJS18101AH
pins: 1 Cathode, 2 E, 3 D, 4 C, 5 Cathode, 6 B, 7 A, 8 DP, 9 F, 10 G

## FM24CL16B
designator D?
IC FRAM 2KB I2C; Part_validated: No; Manufacturer: Cypress; MNL_Number: xxxxxxxx; GPV_Number: -; Value: FM24CL16B; Footprint_validated: No; PartStatus: New; System: -; ClassName: Surface_Assy; Case/Package: SOIC-8; Technology: SMT; Manufacturer Part Number: FM24CL16B
footprint SOIC8_L_RF (SOIC, 8-Leads, Body 4.90x3.90mm, Pitch 1.27mm, IPC High Density)
footprint SOIC8_N_RF (SOIC, 8-Leads, Body 4.90x3.90mm, Pitch 1.27mm, IPC Medium Density)
pins: 4 VSS, 5 SDA, 6 SCL, 7 WP, 8 VDD

## FTSH-105-01-F-DV-K-P-TR
designator X?
CONN 2X5 pin 1.27mm Pitch Samtech; Part_validated: No; System: Connector; GPV_Number: *; Value: FTSH-105-01-F-DV-K-P-TR; Footprint_validated: No; PartStatus: New; ClassName: Surface_Assy; Case/Package: 2x5_Pinheader_1.27; Technology: SMT; Manufacturer: Samtech; Manufacturer Part Number: FTSH-105-01-F-DV-K-P-TR; Supplier 1: Digi-Key; Supplier Part Number 1: SAM13159CT-ND
footprint X-0058X0127_N_RF_FTSH-105-01-F-DV-K-P-TR (2x5 pin connector 1.27mm pitch samtec)
pins: 1, 2 1, 3 1, 4 1, 5 1, 6 1, 7 1, 8 1, 9 1, 10 1

## GM8023B
designator D?
IC H-Bridge Driver 5-42V 800mA; Part_validated: No; Manufacturer: GATEMODE; MNL_Number: xxxxxxxx; Value: GM8023B; Footprint_validated: No; PartStatus: New; System: -; ClassName: Surface_Assy; Case/Package: SOT23-6; Technology: SMT; Manufacturer Part Number: GM8023B
footprint SOT23-6_N_RF (SOT23, 6-Leads, Body 2.90x2.70mm, Pitch 0.95mm, IPC Medium Density)
pins: 1 OUTB, 2 GND, 3 INA, 4 OUTA, 5 VDD, 6 INB

## Heatsink 150x60x25
designator HS?  (value not drawn)
Heatsink 150mm x 60mm x 25mm; Part_validated: No; GPV_Number: xxxx.xxxx; MNL_Number: xxxxxxxx; Value: *; Footprint_validated: No; PartStatus: New; System: -; ClassName: Through-Hole_Assy; Case/Package: -; Technology: THT; Manufacturer: *; Manufacturer Part Number: *
footprint Heatsink 150x60x25

## HEF4046BT
designator D?
IC PLL 3-15V SOIC-16; Part_validated: No; Manufacturer: Nexperia; GPV_Number: xxxx.xxxx; MNL_Number: xxxxxxxx; Value: HEF4046BT; Footprint_validated: No; PartStatus: New; System: -; ClassName: Surface_Assy; Case/Package: SOIC-16; Technology: SMT; Manufacturer Part Number: HEF4046BT
footprint SOIC16_N_RF (SOIC, 16-Leads, Body 9.90x3.90mm, Pitch 1.27mm, IPC Medium Density)
pins: 1 PCP_OUT, 2 PC1_OUT, 3 COMP_IN, 4 VCO_OUT, 5 INH, 6 C1A, 7 C1B, 8 VSS, 9 VCO_IN, 10 SF_OUT, 11 R1, 12 R2, 13 PC2_OUT, 14 SIG_IN, 15 ZENER, 16 VDD

## HR911105A
designator X?
CONN ETHERNET 10/100Base-T integrated magnetics and LEDs; Part_validated: No; Manufacturer: HanRun; System: Connector; MNL_Number: xxxxxxxx; Value: HR911105A; Footprint_validated: No; PartStatus: New; ClassName: Through-Hole_Assy; Technology: THT; Manufacturer Part Number: HR911105A; Supplier 1: LCSC; Supplier Part Number 1: C12074
footprint HR911105A (Connector Ethernet 10/100Base-T)
pins: 1 TD+, 2 TD-, 3 RD+, 4 TD_COM, 5 TD_COM, 6 RD-, 8 GND, 9 LED+ GN, 10 LED- GN, 11 LED+ YE, 12 LED- YE, S Shield

## HTFS 800-P
designator B?
IC Current Sensor ±1200A 5V; Part_validated: No; Manufacturer: LEM; GPV_Number: xxxx.xxxx; MNL_Number: xxxxxxxx; Value: HTFS 800-P; Footprint_validated: No; PartStatus: New; System: -; ClassName: Through-Hole_Assy; Case/Package: -; Technology: THT; Manufacturer Part Number: HTFS 800-P
footprint HTFS 800-P (Current Sensor)
pins: 1 +5V, 2 GND, 3 OUT, 4 VREF

## IA0509S
designator U?
IC DC/DC Converter 5VIN +-9VOUT 1W; Part_validated: No; Manufacturer: XP Power; MNL_Number: xxxxxxxx; GPV_Number: -; Value: IA0509S; Footprint_validated: No; PartStatus: New; System: -; ClassName: Through-Hole_Assy; Case/Package: 7-SIP; Technology: THT; Manufacturer Part Number: IA0509S; Supplier 1: Farnell; Supplier Part Number 1: 1860943
footprint SIP7 (7 PIN SIP Package)
pins: 1 Vi, 2 GNDi, 4 -Vo, 5 GNDo, 6 Vo

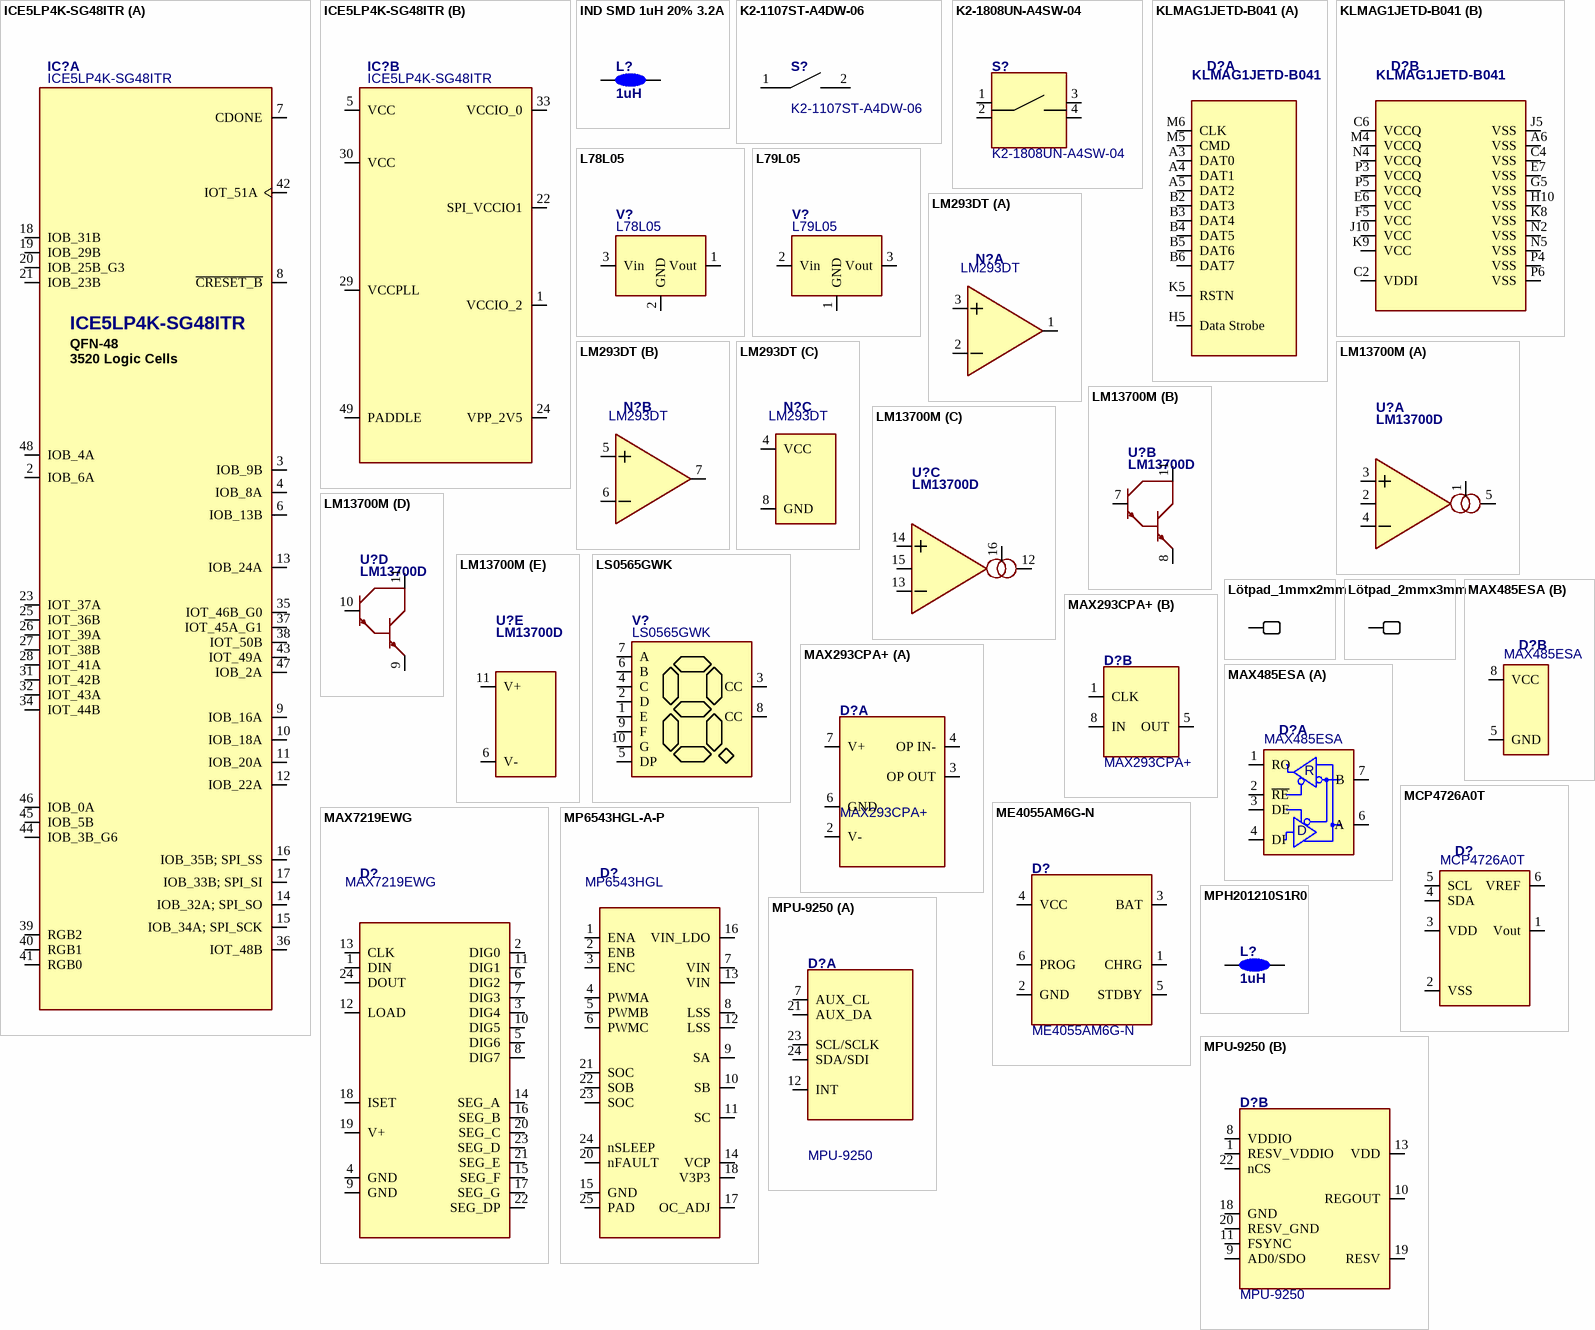
[diagram p2: symbols ICE5LP4K-SG48ITR to MPU-9250]

## ICE5LP4K-SG48ITR
designator IC?
FPGA, ICE40 Ultra, QFN48, 3520 Logic Cells; Part_validated: False; Manufacturer: LATTICE; GPV_Number: xxxx.xxxx; User: epph; Value: ICE5LP4K-SG48ITR; Footprint_validated: False; PartStatus: New; ClassName: Surface_Assy; Manufacturer Part Number: ICE5LP4K-SG48ITR; Supplier 1: Arrow Electronics; Supplier Part Number 1: ICE5LP4K-SG48ITR50
footprint QFN50P700X700X100_HS-49N (QFN, 48-Leads, Body 7.00x7.00mm, Pitch 0.50mm, Thermal Pad 5.35x5.35mm, IPC Medium Density)
part A pins: 2 IOB_6A, 3 IOB_9B, 4 IOB_8A, 6 IOB_13B, 7 CDONE, 8 ~{CRESET_B}, 9 IOB_16A, 10 IOB_18A, 11 IOB_20A, 12 IOB_22A, 13 IOB_24A, 14 IOB_32A; SPI_SO, 15 IOB_34A; SPI_SCK, 16 IOB_35B; SPI_SS, 17 IOB_33B; SPI_SI, 18 IOB_31B, 19 IOB_29B, 20 IOB_25B_G3, 21 IOB_23B, 23 IOT_37A, 25 IOT_36B, 26 IOT_39A, 27 IOT_38B, 28 IOT_41A, 31 IOT_42B, 32 IOT_43A, 34 IOT_44B, 35 IOT_46B_G0, 36 IOT_48B, 37 IOT_45A_G1, 38 IOT_50B, 39 RGB2, 40 RGB1, 41 RGB0, 42 IOT_51A, 43 IOT_49A, 44 IOB_3B_G6, 45 IOB_5B, 46 IOB_0A, 47 IOB_2A, 48 IOB_4A
part B pins: 1 VCCIO_2 (power), 5 VCC (power), 22 SPI_VCCIO1 (power), 24 VPP_2V5 (power), 29 VCCPLL (power), 30 VCC (power), 33 VCCIO_0 (power), 49 PADDLE (power)
part A text: QFN-48 / 3520 Logic Cells

## IND SMD 1uH 20% 3.2A
designator L?, comment 1uH
Inductor 1uH 20% 3.2A; Part_validated: Yes | No; Manufacturer: Murata; Manufacturer Part Number: DFE252012P-1R0M; GPV_Number: xxxx.xxxx; System: Connector; MNL_Number: xxxxxxxx; Value: 1uH; Footprint_validated: Yes | No; PartStatus: New | Draft | Release; ClassName: Surface_Assy | Testpoint | Through-Hole_Assy | NetTie | Symbol | Mechanical; Case/Package: 0201 | 0402 | 0603 | 0805 | 1206 | SO8 | SO16 |; Technology: SMT | THT | SMT-BTC
footprint IND_1008_N_RF (Inductor 2.5mmx2mm)
pins: 1, 2

## K2-1107ST-A4DW-06
designator S?
BUTTON tactile 12V 50mA; Part_validated: No; Manufacturer: HROparts; Manufacturer Part Number: K2-1107ST-A4DW-06 (C118141); GPV_Number: xxxx.xxxx; MNL_Number: xxxxxxxx; Value: K2-1107ST-A4DW-06; Footprint_validated: No; PartStatus: New; System: -; ClassName: Surface_Assy; Case/Package: 4pin; Technology: SMT
footprint K2-1107ST-A4DW-06
pins: 1, 2

## K2-1808UN-A4SW-04
designator S?
BUTTON tactile 12V 50mA; Part_validated: No; Manufacturer: HROparts; GPV_Number: xxxx.xxxx; MNL_Number: xxxxxxxx; Value: K2-1808UN-A4SW-04; Footprint_validated: No; PartStatus: New; System: -; ClassName: Surface_Assy; Case/Package: 4pin; Technology: SMT; Manufacturer Part Number: K2-1808UN-A4SW-04
footprint K2-1808UN-A4SW-04
pins: 1, 2, 3, 4

## KLMAG1JETD-B041
designator D?
IC eMMC Storrage 16GB JEDEC 5.1; Part_validated: No; Manufacturer: Samsung; GPV_Number: xxxx.xxxx; MNL_Number: xxxxxxxx; Value: KLMAG1JETD-B041; Footprint_validated: No; PartStatus: New; System: -; ClassName: Surface_Assy; Case/Package: BGA153; Technology: SMT; Manufacturer Part Number: KLMAG1JETD-B041; Supplier 1: LCSC; Supplier Part Number 1: C499919
footprint BGA153_1150X1300X80 (BGA, 153-Leads, Body 11.50x13.00mmx0.80mm, Pitch 0.50mm)
part A pins: A1, A2, A3 DAT0, A4 DAT1, A5 DAT2, A7, B2 DAT3, B3 DAT4, B4 DAT5, B5 DAT6, B6 DAT7, C3, C5, D1, D2, H5 Data Strobe, K1, K2, K3, K5 RSTN, L1, L2, L3, M5 CMD, M6 CLK
part B pins: A6 VSS, C1, C2 VDDI, C4 VSS, C6 VCCQ, D4, E6 VCC, E7 VSS, F5 VCC, G5 VSS, H10 VSS, J5 VSS, J10 VCC, K8 VSS, K9 VCC, M4 VCCQ, N2 VSS, N4 VCCQ, N5 VSS, P2, P3 VCCQ, P4 VSS, P5 VCCQ, P6 VSS

## L78L05
designator V?
IC REG 5V SOT-89-3 7-30V 100mA; Part_validated: No; Manufacturer: ST; GPV_Number: xxxx.xxxx; MNL_Number: xxxxxxxx; Value: L78L05; Footprint_validated: No; PartStatus: New; System: -; ClassName: Surface_Assy; Case/Package: SOT-89-3; Technology: SMT; Manufacturer Part Number: L78L05
footprint SOT-89-3
pins: 1 Vout, 2 GND, 3 Vin

## L79L05
designator V?
IC REG -5V SOT-89-3; Part_validated: No; Manufacturer: ST; GPV_Number: xxxx.xxxx; MNL_Number: xxxxxxxx; Value: L79L05; Footprint_validated: No; PartStatus: New; System: -; ClassName: Surface_Assy; Case/Package: SOT-89-3; Technology: SMT; Manufacturer Part Number: L79L05
footprint SOT-89-3
pins: 1 GND, 2 Vin, 3 Vout

## LM293DT
designator N?
IC COMP DUAL 36V; Part_validated: No; Manufacturer: ST; GPV_Number: xxxx.xxxx; MNL_Number: xxxxxxxx; Value: LM293DT; Footprint_validated: No; PartStatus: New; System: -; ClassName: Surface_Assy; Case/Package: SO-8; Technology: SMT; Manufacturer Part Number: LM293DT
footprint SOIC8_L_RF (SOIC, 8-Leads, Body 4.90x3.90mm, Pitch 1.27mm, IPC High Density)
footprint SOIC8_N_RF (SOIC, 8-Leads, Body 4.90x3.90mm, Pitch 1.27mm, IPC Medium Density)
part A pins: 1, 2, 3
part B pins: 5, 6, 7
part C pins: 4 VCC, 8 GND

## LM13700M
designator U?, comment LM13700D
Transconductance Amplifier; Part_validated: Yes | No; GPV_Number: xxxx.xxxx; System: Connector; MNL_Number: xxxxxxxx; Value: LM13700D; Footprint_validated: Yes | No; PartStatus: New | Draft | Release; ClassName: Surface_Assy | Testpoint | Through-Hole_Assy | NetTie | Symbol | Mechanical; Case/Package: 0201 | 0402 | 0603 | 0805 | 1206 | SO8 | SO16 |; Technology: SMT | THT | SMT-BTC; Manufacturer: *; Manufacturer Part Number: *
footprint SO16-600X175_N_RF (SOIC, 16-Leads, Body 9.90x3.90mm, Pitch 1.27mm, IPC Medium Density)
part A pins: 1, 2, 3, 4, 5
part B pins: 7, 8, 11
part C pins: 12, 13, 14, 15, 16
part D pins: 9, 10, 11
part E pins: 6 V-, 11 V+

## LS0565GWK
designator V?
LED 7-Seg Green 20mA 2.2V; Part_validated: Yes | No; Manufacturer: Multicomp Pro; GPV_Number: xxxx.xxxx; System: Connector; MNL_Number: xxxxxxxx; Value: LS0565GWK; Footprint_validated: Yes | No; PartStatus: New | Draft | Release; ClassName: Surface_Assy | Testpoint | Through-Hole_Assy | NetTie | Symbol | Mechanical; Case/Package: 0201 | 0402 | 0603 | 0805 | 1206 | SO8 | SO16 |; Technology: SMT | THT | SMT-BTC; Manufacturer Part Number: LS0565GWK
footprint LS0565GWK
pins: 1 E, 2 D, 3 CC, 4 C, 5 DP, 6 B, 7 A, 8 CC, 9 F, 10 G

## Lötpad_1mmx2mm
designator X?  (no BOM)
Solderpad 1mm x 2mm; Part_validated: No; GPV_Number: xxxx.xxxx; System: Connector; MNL_Number: xxxxxxxx; Footprint_validated: No; PartStatus: New; ClassName: Testpoint; Case/Package: -; Technology: SMT; Manufacturer: -; Manufacturer Part Number: -
footprint Lötpad_1x2
pins: 1

## Lötpad_2mmx3mm
designator X?, comment Solderpad_2x3  (value not drawn)  (no BOM)
Solderpad 2mm x 3mm; Part_validated: No; GPV_Number: xxxx.xxxx; System: Connector; MNL_Number: xxxxxxxx; Value: Solderpad_2x3; Footprint_validated: No; PartStatus: New; ClassName: Testpoint; Case/Package: -; Technology: SMT; Manufacturer: -; Manufacturer Part Number: -
footprint Lötpad_2x3
pins: 1

## MAX293CPA+
designator D?
IC Filter; Part_validated: Yes | No; Manufacturer: Maxim; GPV_Number: xxxx.xxxx; System: Connector; MNL_Number: xxxxxxxx; Value: MAX293CPA+; Footprint_validated: Yes | No; PartStatus: New | Draft | Release; ClassName: Surface_Assy | Testpoint | Through-Hole_Assy | NetTie | Symbol | Mechanical; Case/Package: 0201 | 0402 | 0603 | 0805 | 1206 | SO8 | SO16 |; Technology: SMT | THT | SMT-BTC; Manufacturer Part Number: MAX293CPA+
footprint DIP-8
part A pins: 2 V-, 3 OP OUT, 4 OP IN-, 6 GND, 7 V+
part B pins: 1 CLK, 5 OUT, 8 IN

## MAX485ESA
designator D?
IC Transceiver RS485 5V; Part_validated: No; Manufacturer: Maxim; MNL_Number: xxxxxxxx; Value: MAX485ESA; Footprint_validated: No; PartStatus: New; System: -; ClassName: Surface_Assy; Case/Package: SO8; Technology: SMT; Manufacturer Part Number: MAX485ESA
footprint SOIC8_N_RF (SOIC, 8-Leads, Body 4.90x3.90mm, Pitch 1.27mm, IPC Medium Density)
part A pins: 1 RO, 2 ~{RE}, 3 DE, 4 DI, 6 A, 7 B
part B pins: 5 GND, 8 VCC
part A text: R; D

## MAX7219EWG
designator D?
IC Driver LED 7-Segment; Part_validated: No; Manufacturer: Maxim; GPV_Number: xxxx.xxxx; MNL_Number: xxxxxxxx; Value: MAX7219EWG; Footprint_validated: No; PartStatus: New; System: -; ClassName: Surface_Assy; Case/Package: SOIC24W; Technology: SMT; Manufacturer Part Number: MAX7219EWG
footprint SOIC24W_N_RF (SOIC, 24-Leads, Body 15.40x7.50mm, Pitch 1.27mm, IPC Medium Density)
pins: 1 DIN, 2 DIG0, 3 DIG4, 4 GND, 5 DIG6, 6 DIG2, 7 DIG3, 8 DIG7, 9 GND, 10 DIG5, 11 DIG1, 12 LOAD, 13 CLK, 14 SEG_A, 15 SEG_F, 16 SEG_B, 17 SEG_G, 18 ISET, 19 V+, 20 SEG_C, 21 SEG_E, 22 SEG_DP, 23 SEG_D, 24 DOUT

## MCP4726A0T
designator D?
IC DAC I2C 12Bit 2.7V-5.5V; Part_validated: No; Manufacturer: Microchip; GPV_Number: xxxx.xxxx; MNL_Number: xxxxxxxx; Value: MCP4726A0T; Footprint_validated: No; PartStatus: New; System: -; ClassName: Surface_Assy; Case/Package: SOT-23-6; Technology: SMT; Manufacturer Part Number: MCP4726A0T
footprint SOT23-6_N_RF (SOT23, 6-Leads, Body 2.90x2.70mm, Pitch 0.95mm, IPC Medium Density)
pins: 1 Vout, 2 VSS, 3 VDD, 4 SDA, 5 SCL, 6 VREF

## ME4055AM6G-N
designator D?
IC Charger Li-Ion 1Cell; Part_validated: No; Manufacturer: MICRONE; GPV_Number: xxxx.xxxx; MNL_Number: xxxxxxxx; Value: ME4055AM6G-N; Footprint_validated: No; PartStatus: New; System: -; ClassName: Surface_Assy; Case/Package: SOT-23-6; Technology: SMT; Manufacturer Part Number: ME4055AM6G-N
footprint SOT23-6_N_RF (SOT23, 6-Leads, Body 2.90x2.70mm, Pitch 0.95mm, IPC Medium Density)
pins: 1 CHRG, 2 GND, 3 BAT, 4 VCC, 5 STDBY, 6 PROG

## MP6543HGL-A-P
designator D?, comment MP6543HGL
Motor Driver 3-Phase 3-22V 2A; Part_validated: No; Manufacturer: Monolithic Power Systems; Manufacturer Part Number: MP6543HGL-A-P; GPV_Number: xxxx.xxxx; MNL_Number: xxxxxxxx; Value: MP6543HGL; Footprint_validated: No; PartStatus: New; System: -; ClassName: Surface_Assy; Case/Package: QFN-24; Technology: SMT
footprint QFN24_5x7_N_RF (QFN, 24-Leads, Body 3.00x4.00mm, Pitch 0.40mm, Thermal Pad 1.70x2.70mm, IPC Medium Density)
pins: 1 ENA, 2 ENB, 3 ENC, 4 PWMA, 5 PWMB, 6 PWMC, 7 VIN, 8 LSS, 9 SA, 10 SB, 11 SC, 12 LSS, 13 VIN, 14 VCP, 15 GND, 16 VIN_LDO, 17 OC_ADJ, 18 V3P3, 20 nFAULT, 21 SOC, 22 SOB, 23 SOC, 24 nSLEEP, 25 PAD

## MPH201210S1R0
designator L?, comment 1uH
Inductor 1uH 0.95A; Part_validated: No; Manufacturer: Sunlord; Manufacturer Part Number: MPH201210S1R0; GPV_Number: xxxx.xxxx; MNL_Number: xxxxxxxx; Value: 1uH; Footprint_validated: No; PartStatus: New; System: -; ClassName: Surface_Assy; Case/Package: 0805; Technology: SMT
footprint L_0805_N_RF
pins: 1, 2

## MPU-9250
designator D?
IC IMU 9-Axis Attitude Sensor; Part_validated: No; Manufacturer: InvenSense; GPV_Number: xxxx.xxxx; MNL_Number: xxxxxxxx; Value: MPU-9250; Footprint_validated: No; PartStatus: New; System: -; ClassName: Surface_Assy; Case/Package: QFN24; Technology: SMT; Manufacturer Part Number: MPU-9250
footprint QFN24_N_RF (QFN, 24-Leads, Body 3.00x3.00mm, Pitch 0.40mm, Thermal Pad 1.70x1.54mm, IPC Medium Density)
part A pins: 7 AUX_CL, 12 INT, 21 AUX_DA, 23 SCL/SCLK, 24 SDA/SDI
part B pins: 1 RESV_VDDIO, 8 VDDIO, 9 AD0/SDO, 10 REGOUT, 11 FSYNC, 13 VDD, 18 GND, 19 RESV, 20 RESV_GND, 22 nCS

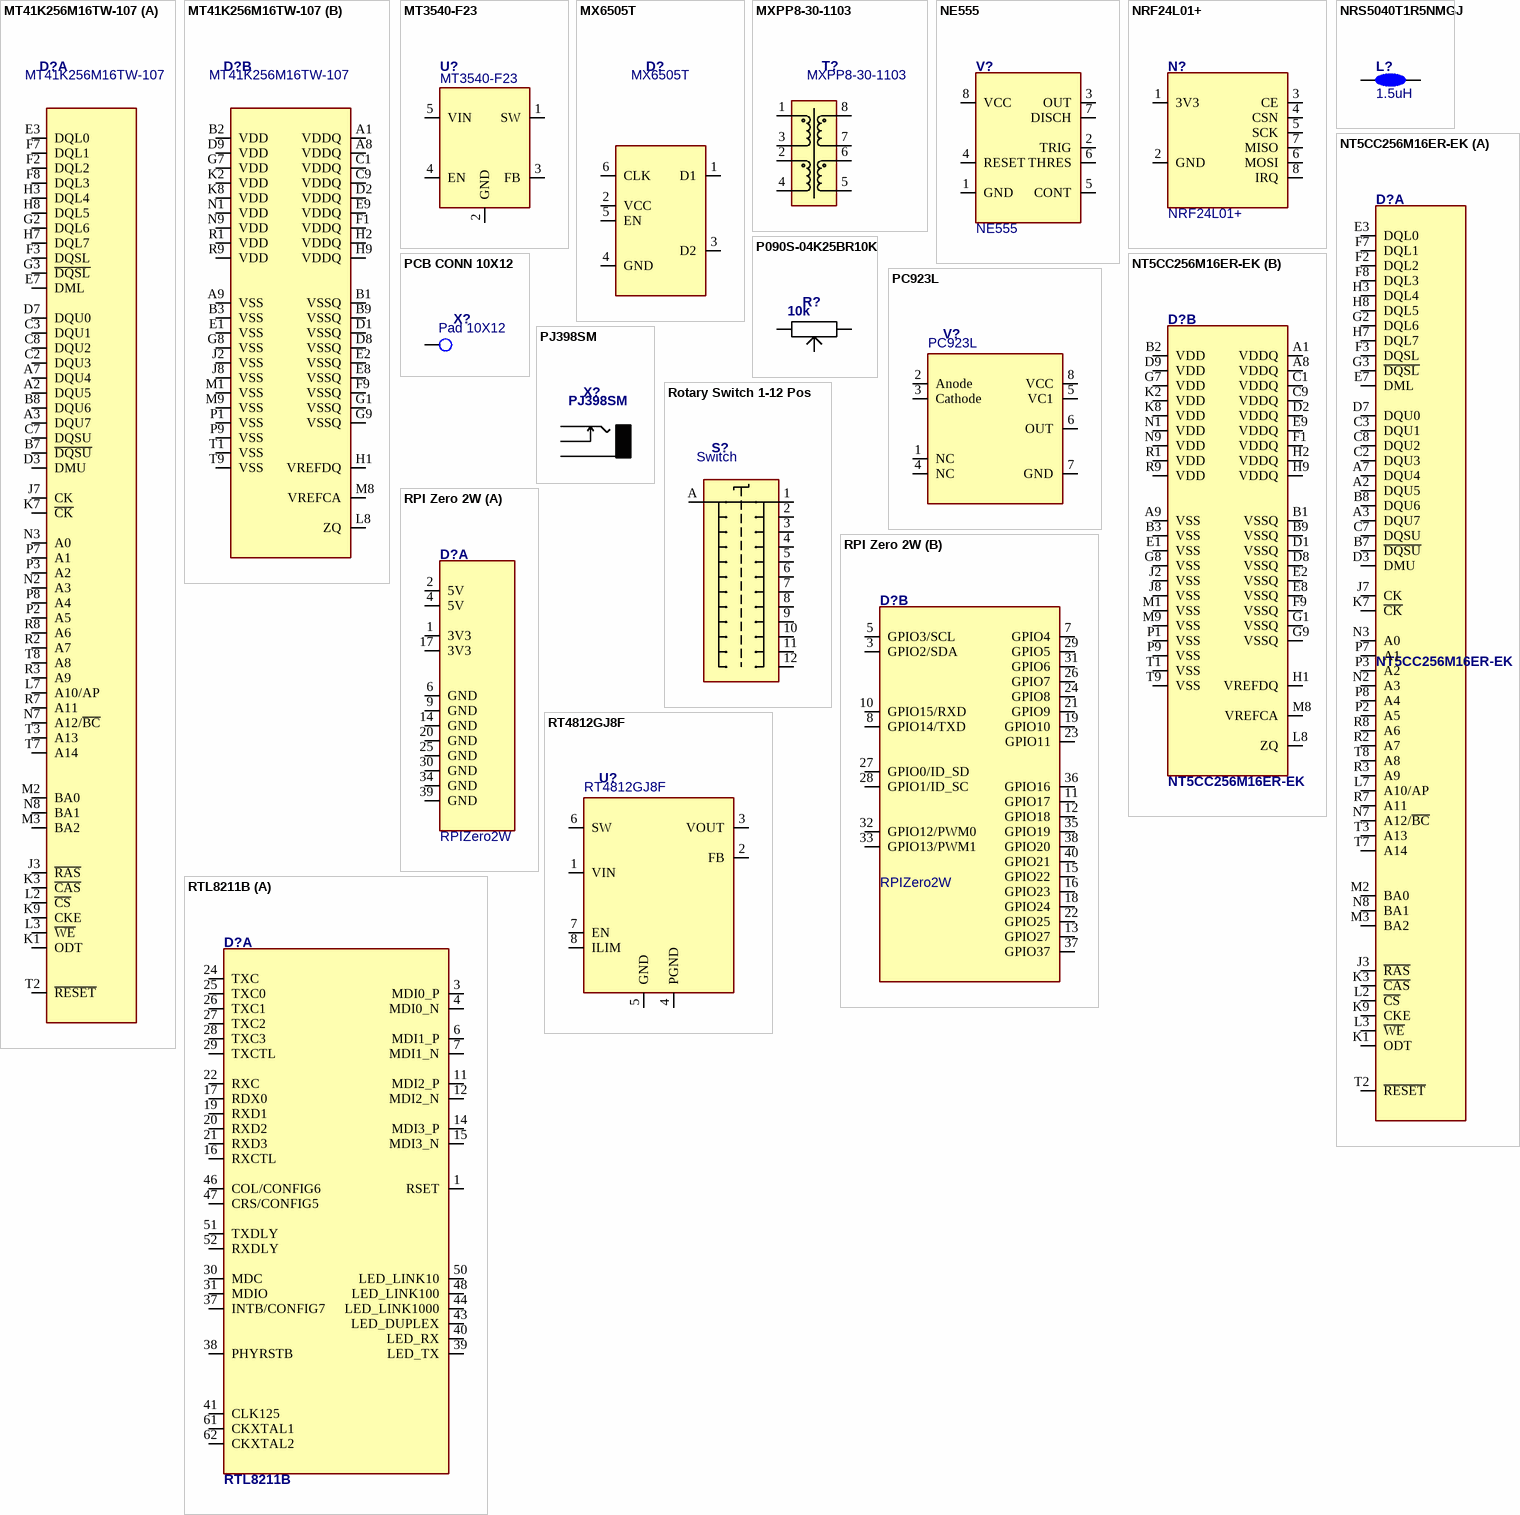
[diagram p3: symbols MT41K256M16TW-107 to RTL8211B]

## MT41K256M16TW-107
designator D?
IC DDR3L RAM 512MB 96-Ball; Part_validated: No; Manufacturer: Micron; GPV_Number: xxxx.xxxx; MNL_Number: xxxxxxxx; Value: MT41K256M16TW-107; Footprint_validated: No; PartStatus: New; System: -; ClassName: Surface_Assy; Case/Package: BGA-96; Technology: SMT; Manufacturer Part Number: MT41K256M16TW-107
part A pins: A2 DQU5, A3 DQU7, A7 DQU4, B7 ~{DQSU}, B8 DQU6, C2 DQU3, C3 DQU1, C7 DQSU, C8 DQU2, D3 DMU, D7 DQU0, E3 DQL0, E7 DML, F2 DQL2, F3 DQSL, F7 DQL1, F8 DQL3, G2 DQL6, G3 ~{DQSL}, H3 DQL4, H7 DQL7, H8 DQL5, J3 ~{RAS}, J7 CK, K1 ODT, K3 ~{CAS}, K7 ~{CK}, K9 CKE, L2 ~{CS}, L3 ~{WE}, L7 A10/AP, M2 BA0, M3 BA2, N2 A3, N3 A0, N7 A12/~{BC}, N8 BA1, P2 A5, P3 A2, P7 A1, P8 A4, R2 A7, R3 A9, R7 A11, R8 A6, T2 ~{RESET}, T3 A13, T7 A14, T8 A8
part B pins: A1 VDDQ, A8 VDDQ, A9 VSS, B1 VSSQ, B2 VDD, B3 VSS, B9 VSSQ, C1 VDDQ, C9 VDDQ, D1 VSSQ, D2 VDDQ, D8 VSSQ, D9 VDD, E1 VSS, E2 VSSQ, E8 VSSQ, E9 VDDQ, F1 VDDQ, F9 VSSQ, G1 VSSQ, G7 VDD, G8 VSS, G9 VSSQ, H1 VREFDQ, H2 VDDQ, H9 VDDQ, J2 VSS, J8 VSS, K2 VDD, K8 VDD, L8 ZQ, M1 VSS, M8 VREFCA, M9 VSS, N1 VDD, N9 VDD, P1 VSS, P9 VSS, R1 VDD, R9 VDD, T1 VSS, T9 VSS

## MT3540-F23
designator U?
IC Boost Converter 2.5V-5.5V upto 28V 1.5A; Part_validated: No; Manufacturer: Aerosemi; GPV_Number: xxxx.xxxx; MNL_Number: xxxxxxxx; Value: MT3540-F23; Footprint_validated: No; PartStatus: New; System: -; ClassName: Surface_Assy; Case/Package: SOT23-5; Technology: SMT; Manufacturer Part Number: MT3540-F23
footprint SOT23-5_N_RF (SOT23, 5-Leads, Body 2.90x2.70mm, Pitch 0.95mm, IPC Medium Density)
pins: 1 SW, 2 GND, 3 FB, 4 EN, 5 VIN

## MX6505T
designator D?
IC PUSH PULL Transformer Driver 1A; Part_validated: No; Manufacturer: Wuxi Maxinmicro; GPV_Number: xxxx.xxxx; MNL_Number: xxxxxxxx; Value: MX6505T; Footprint_validated: No; PartStatus: New; System: -; ClassName: Surface_Assy; Case/Package: SOT32-6; Technology: SMT; Manufacturer Part Number: MX6505T
footprint SOT23-6_N_RF (SOT23, 6-Leads, Body 2.90x2.70mm, Pitch 0.95mm, IPC Medium Density)
pins: 1 D1, 2 VCC, 3 D2, 4 GND, 5 EN, 6 CLK

## MXPP8-30-1103
designator T?
TRANSFORMER Gate Drive 1:1.03; Part_validated: No; Manufacturer: Muxi Maxinmicro; GPV_Number: xxxx.xxxx; MNL_Number: xxxxxxxx; Value: MXPP8-30-1103; Footprint_validated: No; PartStatus: New; System: -; ClassName: Surface_Assy; Case/Package: 8pin Transformer; Technology: SMT; Manufacturer Part Number: MXPP8-30-1103
footprint MXPP8-30-1103
pins: 1, 2, 3, 4, 5, 6, 7, 8

## NE555
designator V?
IC Timer ancient; Part_validated: No; GPV_Number: xxxx.xxxx; MNL_Number: xxxxxxxx; Value: NE555; Footprint_validated: No; PartStatus: New; System: -; ClassName: Surface_Assy; Case/Package: SO8; Technology: SMT; Manufacturer: *; Manufacturer Part Number: *
footprint SOIC8_L_RF (SOIC, 8-Leads, Body 4.90x3.90mm, Pitch 1.27mm, IPC High Density)
footprint SOIC8_N_RF (SOIC, 8-Leads, Body 4.90x3.90mm, Pitch 1.27mm, IPC Medium Density)
pins: 1 GND, 2 TRIG, 3 OUT, 4 RESET, 5 CONT, 6 THRES, 7 DISCH, 8 VCC

## NRF24L01+
designator N?
MODULE RF NRF24L01+ SMD 2.4GHz 2Mbps; Part_validated: No; Manufacturer: Nordic; GPV_Number: xxxx.xxxx; MNL_Number: xxxxxxxx; Value: NRF24L01+; Footprint_validated: No; PartStatus: New; System: -; ClassName: Surface_Assy; Case/Package: SIL-8; Technology: SMT; Manufacturer Part Number: NRF24L01+
footprint NRF24L01+_SMD
pins: 1 3V3, 2 GND, 3 CE, 4 CSN, 5 SCK, 6 MOSI, 7 MISO, 8 IRQ

## NRS5040T1R5NMGJ
designator L?, comment 1.5uH
IND 4.7uH 6.4A 4.9x4.9mm; Part_validated: No; Manufacturer: TAIYO YUDEN; Manufacturer Part Number: NRS5040T1R5NMGJ; GPV_Number: xxxx.xxxx; MNL_Number: xxxxxxxx; Value: 1.5uH; Footprint_validated: No; PartStatus: New; System: -; ClassName: Surface_Assy; Case/Package: 4.9x4.9; Technology: SMT
footprint L-0490X0490_N_RF (Chip Inductor, 2-Leads, Body 4.90x4.90mm, IPC Medium Density)
pins: 1, 2

## NT5CC256M16ER-EK
designator D?
IC DDR3(L) RAM 512MB 96-BALL; Part_validated: Yes | No; Manufacturer: Nanya; GPV_Number: xxxx.xxxx; System: Connector; MNL_Number: xxxxxxxx; Value: NT5CC256M16ER-EK; Footprint_validated: Yes | No; PartStatus: New | Draft | Release; ClassName: Surface_Assy | Testpoint | Through-Hole_Assy | NetTie | Symbol | Mechanical; Case/Package: 0201 | 0402 | 0603 | 0805 | 1206 | SO8 | SO16 |; Technology: SMT | THT | SMT-BTC; Manufacturer Part Number: NT5CC256M16ER-EK
footprint TFBGA-96_N_RF (BGA, 96-Leads, Body 8.00x13.00mmx1.20mm, Pitch 0.80mm)
part A pins: A2 DQU5, A3 DQU7, A7 DQU4, B7 ~{DQSU}, B8 DQU6, C2 DQU3, C3 DQU1, C7 DQSU, C8 DQU2, D3 DMU, D7 DQU0, E3 DQL0, E7 DML, F2 DQL2, F3 DQSL, F7 DQL1, F8 DQL3, G2 DQL6, G3 ~{DQSL}, H3 DQL4, H7 DQL7, H8 DQL5, J3 ~{RAS}, J7 CK, K1 ODT, K3 ~{CAS}, K7 ~{CK}, K9 CKE, L2 ~{CS}, L3 ~{WE}, L7 A10/AP, M2 BA0, M3 BA2, N2 A3, N3 A0, N7 A12/~{BC}, N8 BA1, P2 A5, P3 A2, P7 A1, P8 A4, R2 A7, R3 A9, R7 A11, R8 A6, T2 ~{RESET}, T3 A13, T7 A14, T8 A8
part B pins: A1 VDDQ, A8 VDDQ, A9 VSS, B1 VSSQ, B2 VDD, B3 VSS, B9 VSSQ, C1 VDDQ, C9 VDDQ, D1 VSSQ, D2 VDDQ, D8 VSSQ, D9 VDD, E1 VSS, E2 VSSQ, E8 VSSQ, E9 VDDQ, F1 VDDQ, F9 VSSQ, G1 VSSQ, G7 VDD, G8 VSS, G9 VSSQ, H1 VREFDQ, H2 VDDQ, H9 VDDQ, J2 VSS, J8 VSS, K2 VDD, K8 VDD, L8 ZQ, M1 VSS, M8 VREFCA, M9 VSS, N1 VDD, N9 VDD, P1 VSS, P9 VSS, R1 VDD, R9 VDD, T1 VSS, T9 VSS

## P090S-04K25BR10K
designator R?, comment 10k
Potentiometer with thin long shaft; Part_validated: Yes | No; Manufacturer: TT Electronics; Manufacturer Part Number: P090S-04K25BR10K; GPV_Number: xxxx.xxxx; System: Connector; MNL_Number: xxxxxxxx; Value: 10k; Footprint_validated: Yes | No; PartStatus: New | Draft | Release; ClassName: Surface_Assy | Testpoint | Through-Hole_Assy | NetTie | Symbol | Mechanical; Case/Package: 0201 | 0402 | 0603 | 0805 | 1206 | SO8 | SO16 |; Technology: SMT | THT | SMT-BTC
footprint P090S-04K25BR10K (Potentiometer)
pins: 1, 2, 3

## PC923L
designator V?
IC Gate Driver Opto 0.6A; Part_validated: No; Manufacturer: Sharp; GPV_Number: xxxx.xxxx; MNL_Number: xxxxxxxx; Value: PC923L; Footprint_validated: No; PartStatus: New; System: -; ClassName: Surface_Assy; Case/Package: DIP8 SMT; Technology: SMT; Manufacturer Part Number: PC923L
footprint DIP-8-SMT
pins: 1 NC, 2 Anode, 3 Cathode, 4 NC, 5 VC1, 6 OUT, 7 GND, 8 VCC

## PCB CONN 10X12
designator X?, comment Pad 10X12  (no BOM)
PCB Screw terminal 10x12; Part_validated: No; GPV_Number: xxxx.xxxx; System: Connector; MNL_Number: xxxxxxxx; Value: Pad 10X12; Footprint_validated: No; PartStatus: New; ClassName: Through-Hole_Assy; Case/Package: -; Technology: THT; Manufacturer: -; Manufacturer Part Number: -
footprint PCB PAD 10x12
pins: 1

## PJ398SM
designator X?
Thonkiconn 3.5mm jack; Part_validated: Yes | No; GPV_Number: xxxx.xxxx; System: Connector; MNL_Number: xxxxxxxx; Value: PJ398SM; Footprint_validated: Yes | No; PartStatus: New | Draft | Release; ClassName: Surface_Assy | Testpoint | Through-Hole_Assy | NetTie | Symbol | Mechanical; Case/Package: 0201 | 0402 | 0603 | 0805 | 1206 | SO8 | SO16 |; Technology: SMT | THT | SMT-BTC; Manufacturer: *; Manufacturer Part Number: *
footprint PJ398SM_OFFSET_GND
pins: NC, S, T 1

## Rotary Switch 1-12 Pos
designator S?, comment Switch
Rotary Switch with 1 to 12 Positions; Part_validated: No; GPV_Number: xxxx.xxxx; MNL_Number: xxxxxxxx; Value: Switch; Footprint_validated: No; PartStatus: New; System: -; ClassName: Through-Hole_Assy; Case/Package: *; Technology: THT; Manufacturer: *; Manufacturer Part Number: *
footprint S_Rotary_Switch
pins: 1, 2, 3, 4, 5, 6, 7, 8, 9, 10, 11, 12, A

## RPI Zero 2W
designator D?, comment RPIZero2W
Raspberry Pi Zero 2W; Part_validated: No; Manufacturer Part Number: Zero 2W; GPV_Number: xxxx.xxxx; MNL_Number: xxxxxxxx; Value: RPIZero2W; Footprint_validated: No; PartStatus: New; System: -; ClassName: Through-Hole_Assy; Case/Package: -; Technology: THT; Manufacturer: Raspberry Pi
footprint RPIZero2W
part A pins: 1 3V3, 2 5V, 4 5V, 6 GND, 9 GND, 14 GND, 17 3V3, 20 GND, 25 GND, 30 GND, 34 GND, 39 GND
part B pins: 3 GPIO2/SDA, 5 GPIO3/SCL, 7 GPIO4, 8 GPIO14/TXD, 10 GPIO15/RXD, 11 GPIO17, 12 GPIO18, 13 GPIO27, 15 GPIO22, 16 GPIO23, 18 GPIO24, 19 GPIO10, 21 GPIO9, 22 GPIO25, 23 GPIO11, 24 GPIO8, 26 GPIO7, 27 GPIO0/ID_SD, 28 GPIO1/ID_SC, 29 GPIO5, 31 GPIO6, 32 GPIO12/PWM0, 33 GPIO13/PWM1, 35 GPIO19, 36 GPIO16, 37 GPIO37, 38 GPIO20, 40 GPIO21

## RT4812GJ8F
designator U?
IC Boost Converter 1.8V-5.5V to 1.8-5.5V 2.1A; Part_validated: No; Manufacturer: Richtek; GPV_Number: xxxx.xxxx; MNL_Number: xxxxxxxx; Value: RT4812GJ8F; Footprint_validated: No; PartStatus: New; System: -; ClassName: Surface_Assy; Case/Package: TSOT-23-8; Technology: SMT; Manufacturer Part Number: RT4812GJ8F
footprint TSOT-23-8
pins: 1 VIN, 2 FB, 3 VOUT, 4 PGND, 5 GND, 6 SW, 7 EN, 8 ILIM

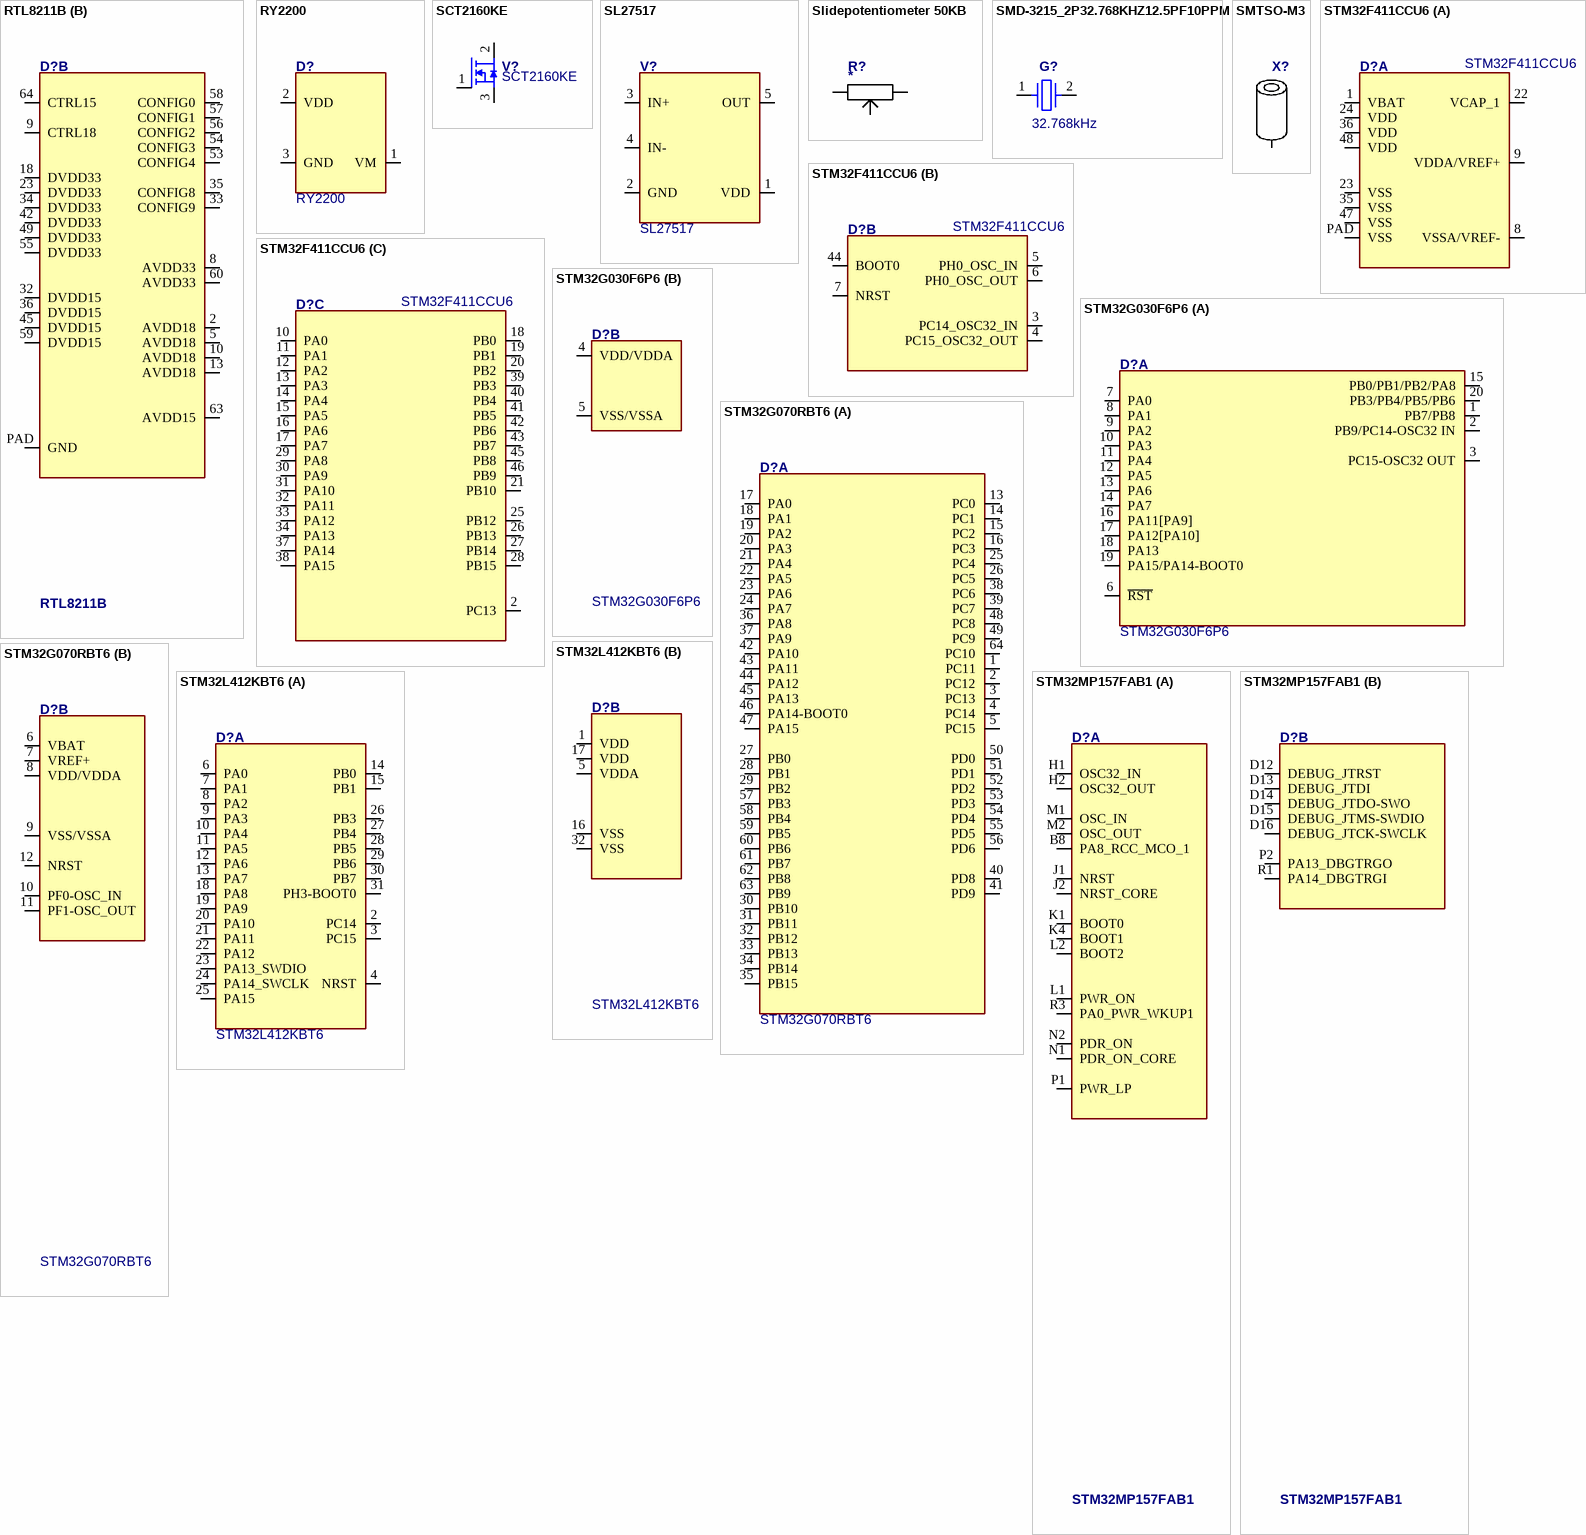
[diagram p4: symbols RTL8211B to STM32MP157FAB1]

## RTL8211B
designator D?
IC Ethernet PHY 10/100/1000 Mbps Transceiver; Part_validated: Yes | No; Manufacturer: Realtek; GPV_Number: xxxx.xxxx; System: Connector; MNL_Number: xxxxxxxx; Value: RTL8211B; Footprint_validated: Yes | No; PartStatus: New | Draft | Release; ClassName: Surface_Assy | Testpoint | Through-Hole_Assy | NetTie | Symbol | Mechanical; Case/Package: 0201 | 0402 | 0603 | 0805 | 1206 | SO8 | SO16 |; Technology: SMT | THT | SMT-BTC; Manufacturer Part Number: RTL8211B
footprint QFN64_N_RF (QFN, 64-Leads, Body 9.00x9.00mm, Pitch 0.50mm, Thermal Pad 5.60x5.60mm, IPC Medium Density)
part A pins: 1 RSET, 3 MDI0_P, 4 MDI0_N, 6 MDI1_P, 7 MDI1_N, 11 MDI2_P, 12 MDI2_N, 14 MDI3_P, 15 MDI3_N, 16 RXCTL, 17 RDX0, 19 RXD1, 20 RXD2, 21 RXD3, 22 RXC, 24 TXC, 25 TXC0, 26 TXC1, 27 TXC2, 28 TXC3, 29 TXCTL, 30 MDC, 31 MDIO, 37 INTB/CONFIG7, 38 PHYRSTB, 39 LED_TX, 40 LED_RX, 41 CLK125, 43 LED_DUPLEX, 44 LED_LINK1000, 46 COL/CONFIG6, 47 CRS/CONFIG5, 48 LED_LINK100, 50 LED_LINK10, 51 TXDLY, 52 RXDLY, 61 CKXTAL1, 62 CKXTAL2
part B pins: 2 AVDD18, 5 AVDD18, 8 AVDD33, 9 CTRL18, 10 AVDD18, 13 AVDD18, 18 DVDD33, 23 DVDD33, 32 DVDD15, 33 CONFIG9, 34 DVDD33, 35 CONFIG8, 36 DVDD15, 42 DVDD33, 45 DVDD15, 49 DVDD33, 53 CONFIG4, 54 CONFIG3, 55 DVDD33, 56 CONFIG2, 57 CONFIG1, 58 CONFIG0, 59 DVDD15, 60 AVDD33, 63 AVDD15, 64 CTRL15, PAD GND

## RY2200
designator D?
IC Protection Li-Ion; Part_validated: No; Manufacturer: Rychip; GPV_Number: xxxx.xxxx; MNL_Number: xxxxxxxx; Value: RY2200; Footprint_validated: No; PartStatus: New; System: -; ClassName: Surface_Assy; Case/Package: SOT23; Technology: SMT; Manufacturer Part Number: RY2200
footprint SOT23_N_RF (SOT23, 3-Leads, Body 2.9x1.3mm, Pitch 0.95mm, Lead Span 2.4mm, IPC Medium Density)
pins: 1 VM, 2 VDD, 3 GND